# Altium integrated library Actel Axcelerator.IntLib: 162 symbols (part 29 of 43)
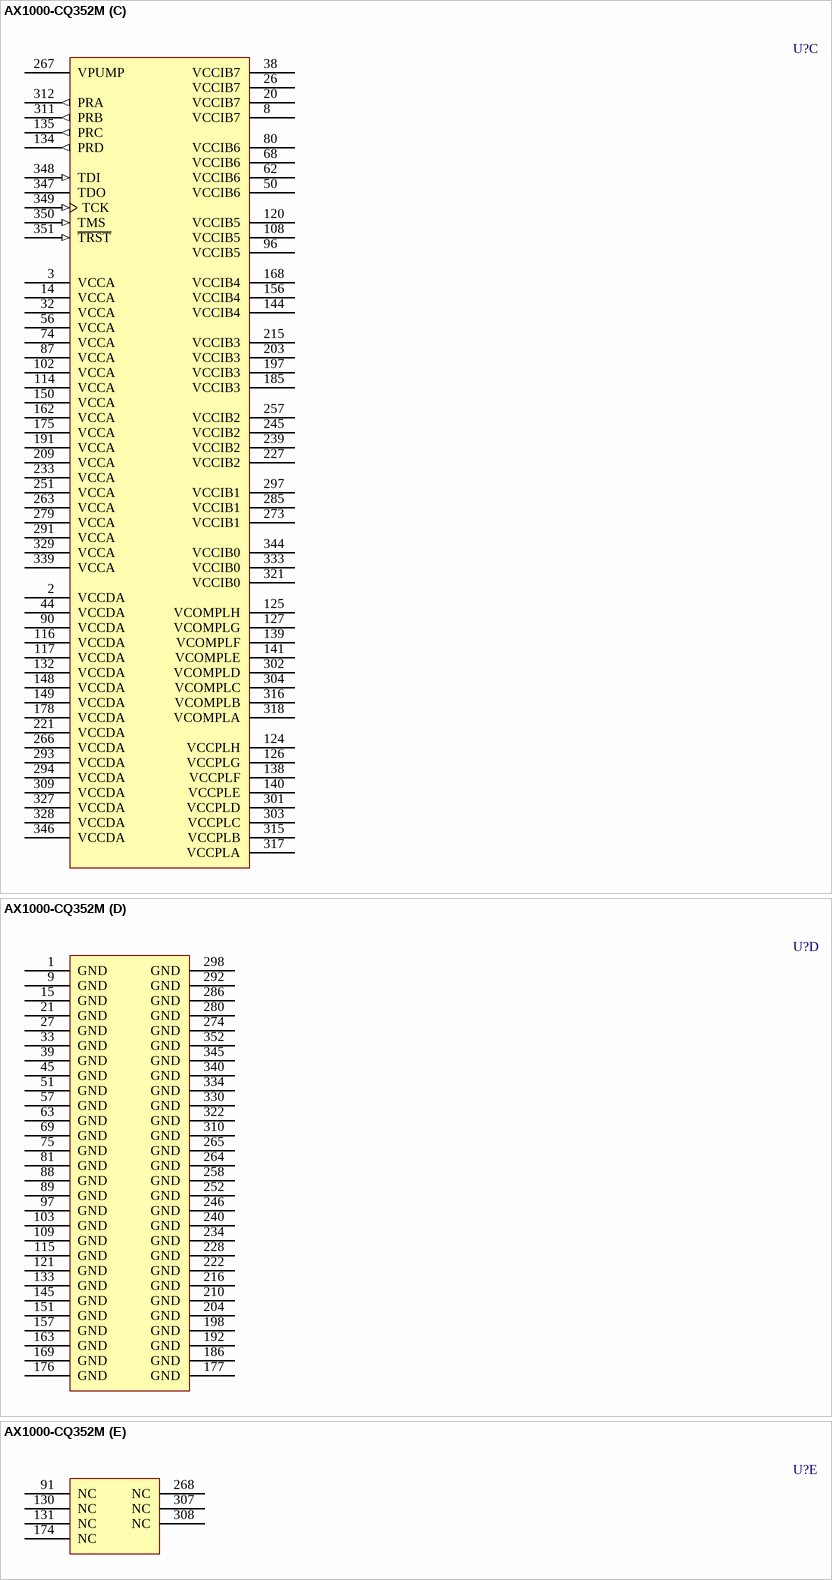
[diagram p427: symbol AX1000-CQ352M]

## AX1000-CQ352M
designator U?
Axcelerator AX1000 FPGA, 198 User I/Os, 352-Pin CQFP, Standard Speed Grade, Military Grade; Published: 11-Dec-2009; DatasheetVersion: v2.8, Oct-2009; PackageVersion: ver11.2, Nov-2009; PackageReference: CQ352; Publisher: Altium Limited; PackageDescription: 352-Pin Ceramic Quad Flat Pack (CQFP), Cavity Up without Heat Sink; Code_JEDEC: MO-134-AE; ComponentLink1Description: Axcelerator Datasheet; ComponentLink1URL: http://www.actel.com/documents/AX_DS.pdf; ComponentLink2Description: Package Mechanical Drawings; ComponentLink2URL: http://www.actel.com/documents/PckgMechDrwngs.pdf; ComponentLink3Description: Axcelerator Documents; ComponentLink3URL: http://www.actel.com/products/axcelerator/docs.aspx; ComponentLink4Description: Actel.com Home; ComponentLink4URL: http://www.actel.com/
footprint CQ352_N (CQFP, 352-Leads, Body 48x48mm; Pitch 0.5mm, Gullwing Leadform, IPC Medium Density)
footprint CQ352_L (CQFP, 352-Leads, Body 48x48mm; Pitch 0.5mm, Gullwing Leadform, IPC High Density)
footprint CQ352_M (CQFP, 352-Leads, Body 48x48mm; Pitch 0.5mm, Gullwing Leadform, IPC Low Density)
part A pins: 179 IO128NB3F11 (io), 180 IO128PB3F11 (io), 181 IO127NB3F11 (io), 182 IO127PB3F11 (io), 183 IO124NB3F11 (io), 184 IO124PB3F11 (io), 187 IO125NB3F11 (io), 188 IO125PB3F11 (io), 189 IO117NB3F10 (io), 190 IO117PB3F10 (io), 193 IO116NB3F10 (io), 194 IO116PB3F10 (io), 195 IO115NB3F10 (io), 196 IO115PB3F10 (io), 199 IO112NB3F10 (io), 200 IO112PB3F10 (io), 201 IO113NB3F10 (io), 202 IO113PB3F10 (io), 205 IO111NB3F10 (io), 206 IO111PB3F10 (io), 207 IO109NB3F10 (io), 208 IO109PB3F10 (io), 211 IO108NB3F10 (io), 212 IO108PB3F10 (io), 213 IO99NB3F9 (io), 214 IO99PB3F9 (io), 217 IO96NB3F9 (io), 218 IO96PB3F9 (io), 219 IO97NB3F9 (io), 220 IO97PB3F9 (io), 223 IO95NB2F8 (io), 224 IO95PB2F8 (io), 225 IO94NB2F8 (io), 226 IO94PB2F8 (io), 229 IO83NB2F7 (io), 230 IO83PB2F7 (io), 231 IO82NB2F7 (io), 232 IO82PB2F7 (io), 235 IO79NB2F7 (io), 236 IO79PB2F7 (io), 237 IO78NB2F7 (io), 238 IO78PB2F7 (io), 241 IO77NB2F7 (io), 242 IO77PB2F7 (io), 243 IO76NB2F7 (io), 244 IO76PB2F7 (io), 247 IO75NB2F7 (io), 248 IO75PB2F7 (io), 249 IO74NB2F7 (io), 250 IO74PB2F7 (io), 253 IO69NB2F6 (io), 254 IO69PB2F6 (io), 255 IO68NB2F6 (io), 256 IO68PB2F6 (io), 259 IO64NB2F6 (io), 260 IO64PB2F6 (io), 261 IO67NB2F6 (io), 262 IO67PB2F6 (io), 269 IO63NB1F5 (io), 270 IO63PB1F5 (io), 271 IO61NB1F5 (io), 272 IO61PB1F5 (io), 275 IO60NB1F5 (io), 276 IO60PB1F5 (io), 277 IO59NB1F5 (io), 278 IO59PB1F5 (io), 281 IO56NB1F5 (io), 282 IO56PB1F5 (io), 283 IO57NB1F5 (io), 284 IO57PB1F5 (io), 287 IO54NB1F5 (io), 288 IO54PB1F5 (io), 289 IO55NB1F5 (io), 290 IO55PB1F5 (io), 295 IO38NB1F3 (io), 296 IO38PB1F3 (io), 299 IO33NB1F3/HCLKDN (io), 300 IO33PB1F3/HCLKDP (io), 305 IO32NB1F3/HCLKCN (io), 306 IO32PB1F3/HCLKCP (io), 313 IO31NB0F2/HCLKBN (io), 314 IO31PB0F2/HCLKBP (io), 319 IO30NB0F2/HCLKAN (io), 320 IO30PB0F2/HCLKAP (io), 323 IO25NB0F2 (io), 324 IO25PB0F2 (io), 325 IO24NB0F2 (io), 326 IO24PB0F2 (io), 331 IO08NB0F0 (io), 332 IO08PB0F0 (io), 335 IO09NB0F0 (io), 336 IO09PB0F0 (io), 337 IO04NB0F0 (io), 338 IO04PB0F0 (io), 341 IO02NB0F0 (io), 342 IO02PB0F0 (io), 343 IO03PB0F0 (io)
part B pins: 4 IO256NB7F23 (io), 5 IO256PB7F23 (io), 6 IO257NB7F23 (io), 7 IO257PB7F23 (io), 10 IO250NB7F23 (io), 11 IO250PB7F23 (io), 12 IO249NB7F23 (io), 13 IO249PB7F23 (io), 16 IO246NB7F22 (io), 17 IO246PB7F22 (io), 18 IO245NB7F22 (io), 19 IO245PB7F22 (io), 22 IO244NB7F22 (io), 23 IO244PB7F22 (io), 24 IO242NB7F22 (io), 25 IO242PB7F22 (io), 28 IO241NB7F22 (io), 29 IO241PB7F22 (io), 30 IO240NB7F22 (io), 31 IO240PB7F22 (io), 34 IO237NB7F22 (io), 35 IO237PB7F22 (io), 36 IO238NB7F22 (io), 37 IO238PB7F22 (io), 40 IO225NB7F21 (io), 41 IO225PB7F21 (io), 42 IO226NB7F21 (io), 43 IO226PB7F21 (io), 46 IO224NB6F20 (io), 47 IO224PB6F20 (io), 48 IO223NB6F20 (io), 49 IO223PB6F20 (io), 52 IO212NB6F19 (io), 53 IO212PB6F19 (io), 54 IO211NB6F19 (io), 55 IO211PB6F19 (io), 58 IO208NB6F19 (io), 59 IO208PB6F19 (io), 60 IO207NB6F19 (io), 61 IO207PB6F19 (io), 64 IO206NB6F19 (io), 65 IO206PB6F19 (io), 66 IO205NB6F19 (io), 67 IO205PB6F19 (io), 70 IO204NB6F19 (io), 71 IO204PB6F19 (io), 72 IO203NB6F19 (io), 73 IO203PB6F19 (io), 76 IO198NB6F18 (io), 77 IO198PB6F18 (io), 78 IO196NB6F18 (io), 79 IO196PB6F18 (io), 82 IO197NB6F18 (io), 83 IO197PB6F18 (io), 84 IO194NB6F18 (io), 85 IO194PB6F18 (io), 86 IO193PB6F18 (io), 92 IO192NB5F17 (io), 93 IO192PB5F17 (io), 94 IO190NB5F17 (io), 95 IO190PB5F17 (io), 98 IO187NB5F17 (io), 99 IO187PB5F17 (io), 100 IO188NB5F17 (io), 101 IO188PB5F17 (io), 104 IO185NB5F17 (io), 105 IO185PB5F17 (io), 106 IO186NB5F17 (io), 107 IO186PB5F17 (io), 110 IO183NB5F17 (io), 111 IO183PB5F17 (io), 112 IO184NB5F17 (io), 113 IO184PB5F17 (io), 118 IO167NB5F15 (io), 119 IO167PB5F15 (io), 122 IO162NB5F15/CLKHN (io), 123 IO162PB5F15/CLKHP (io), 128 IO161NB5F15/CLKGN (io), 129 IO161PB5F15/CLKGP (io), 136 IO160NB4F14/CLKFN (io), 137 IO160PB4F14/CLKFP (io), 142 IO159NB4F14/CLKEN (io), 143 IO159PB4F14/CLKEP (io), 146 IO153NB4F14 (io), 147 IO153PB4F14 (io), 152 IO138NB4F12 (io), 153 IO138PB4F12 (io), 154 IO137NB4F12 (io), 155 IO137PB4F12 (io), 158 IO136NB4F12 (io), 159 IO136PB4F12 (io), 160 IO134NB4F12 (io), 161 IO134PB4F12 (io), 164 IO133NB4F12 (io), 165 IO133PB4F12 (io), 166 IO132NB4F12 (io), 167 IO132PB4F12 (io), 170 IO131NB4F12 (io), 171 IO131PB4F12 (io), 172 IO130NB4F12 (io), 173 IO130PB4F12 (io)
part C pins: 2 VCCDA (power), 3 VCCA (power), 8 VCCIB7 (power), 14 VCCA (power), 20 VCCIB7 (power), 26 VCCIB7 (power), 32 VCCA (power), 38 VCCIB7 (power), 44 VCCDA (power), 50 VCCIB6 (power), 56 VCCA (power), 62 VCCIB6 (power), 68 VCCIB6 (power), 74 VCCA (power), 80 VCCIB6 (power), 87 VCCA (power), 90 VCCDA (power), 96 VCCIB5 (power), 102 VCCA (power), 108 VCCIB5 (power), 114 VCCA (power), 116 VCCDA (power), 117 VCCDA (power), 120 VCCIB5 (power), 124 VCCPLH (power), 125 VCOMPLH (power), 126 VCCPLG (power), 127 VCOMPLG (power), 132 VCCDA (power), 134 PRD (out), 135 PRC (out), 138 VCCPLF (power), 139 VCOMPLF (power), 140 VCCPLE (power), 141 VCOMPLE (power), 144 VCCIB4 (power), 148 VCCDA (power), 149 VCCDA (power), 150 VCCA (power), 156 VCCIB4 (power), 162 VCCA (power), 168 VCCIB4 (power), 175 VCCA (power), 178 VCCDA (power), 185 VCCIB3 (power), 191 VCCA (power), 197 VCCIB3 (power), 203 VCCIB3 (power), 209 VCCA (power), 215 VCCIB3 (power), 221 VCCDA (power), 227 VCCIB2 (power), 233 VCCA (power), 239 VCCIB2 (power), 245 VCCIB2 (power), 251 VCCA (power), 257 VCCIB2 (power), 263 VCCA (power), 266 VCCDA (power), 267 VPUMP (power), 273 VCCIB1 (power), 279 VCCA (power), 285 VCCIB1 (power), 291 VCCA (power), 293 VCCDA (power), 294 VCCDA (power), 297 VCCIB1 (power), 301 VCCPLD (power), 302 VCOMPLD (power), 303 VCCPLC (power), 304 VCOMPLC (power), 309 VCCDA (power), 311 PRB (out), 312 PRA (out), 315 VCCPLB (power), 316 VCOMPLB (power), 317 VCCPLA (power), 318 VCOMPLA (power), 321 VCCIB0 (power), 327 VCCDA (power), 328 VCCDA (power), 329 VCCA (power), 333 VCCIB0 (power), 339 VCCA (power), 344 VCCIB0 (power), 346 VCCDA (power), 347 TDO (hiz), 348 TDI (in), 349 TCK (in), 350 TMS (in), 351 ~{TRST} (in)
part D pins: 1 GND (power), 9 GND (power), 15 GND (power), 21 GND (power), 27 GND (power), 33 GND (power), 39 GND (power), 45 GND (power), 51 GND (power), 57 GND (power), 63 GND (power), 69 GND (power), 75 GND (power), 81 GND (power), 88 GND (power), 89 GND (power), 97 GND (power), 103 GND (power), 109 GND (power), 115 GND (power), 121 GND (power), 133 GND (power), 145 GND (power), 151 GND (power), 157 GND (power), 163 GND (power), 169 GND (power), 176 GND (power), 177 GND (power), 186 GND (power), 192 GND (power), 198 GND (power), 204 GND (power), 210 GND (power), 216 GND (power), 222 GND (power), 228 GND (power), 234 GND (power), 240 GND (power), 246 GND (power), 252 GND (power), 258 GND (power), 264 GND (power), 265 GND (power), 274 GND (power), 280 GND (power), 286 GND (power), 292 GND (power), 298 GND (power), 310 GND (power), 322 GND (power), 330 GND (power), 334 GND (power), 340 GND (power), 345 GND (power), 352 GND (power)
part E pins: 91 NC, 130 NC, 131 NC, 174 NC, 268 NC, 307 NC, 308 NC
part A text: Bank 0; Bank 3; Bank 1; Bank 2
part B text: Bank 4; Bank 7; Bank 5; Bank 6

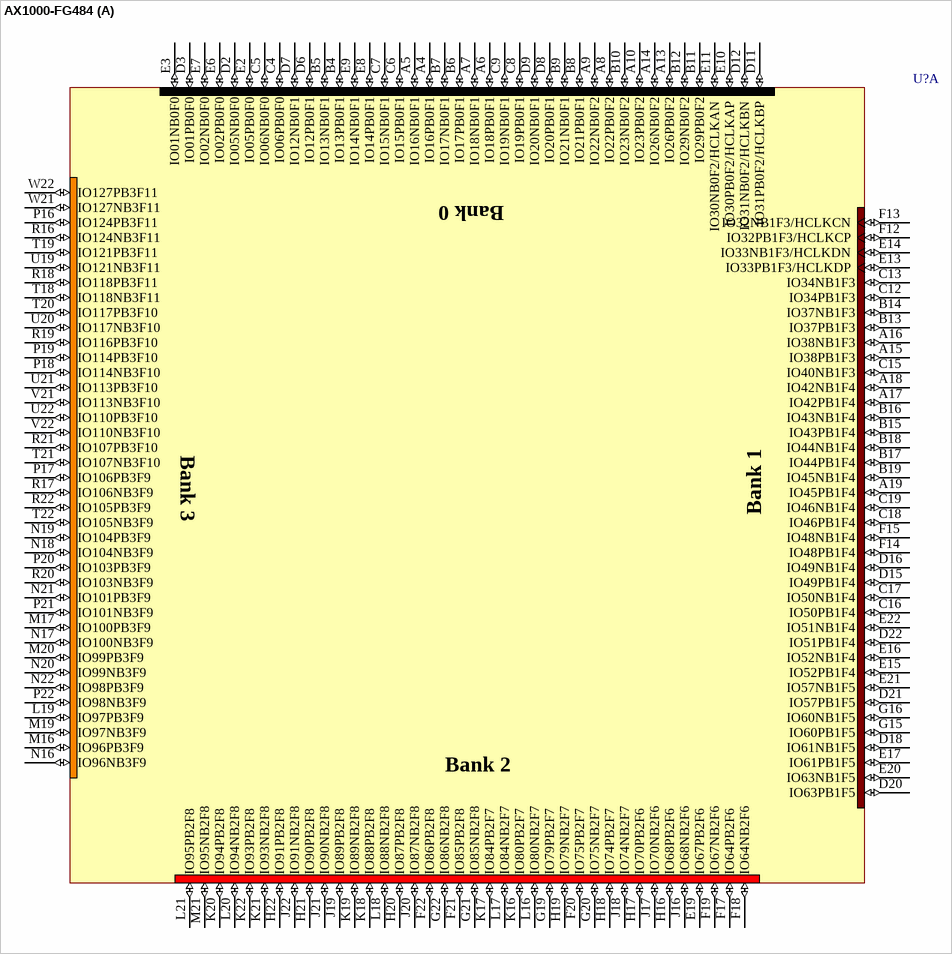
[diagram p328: symbol AX1000-FG484]

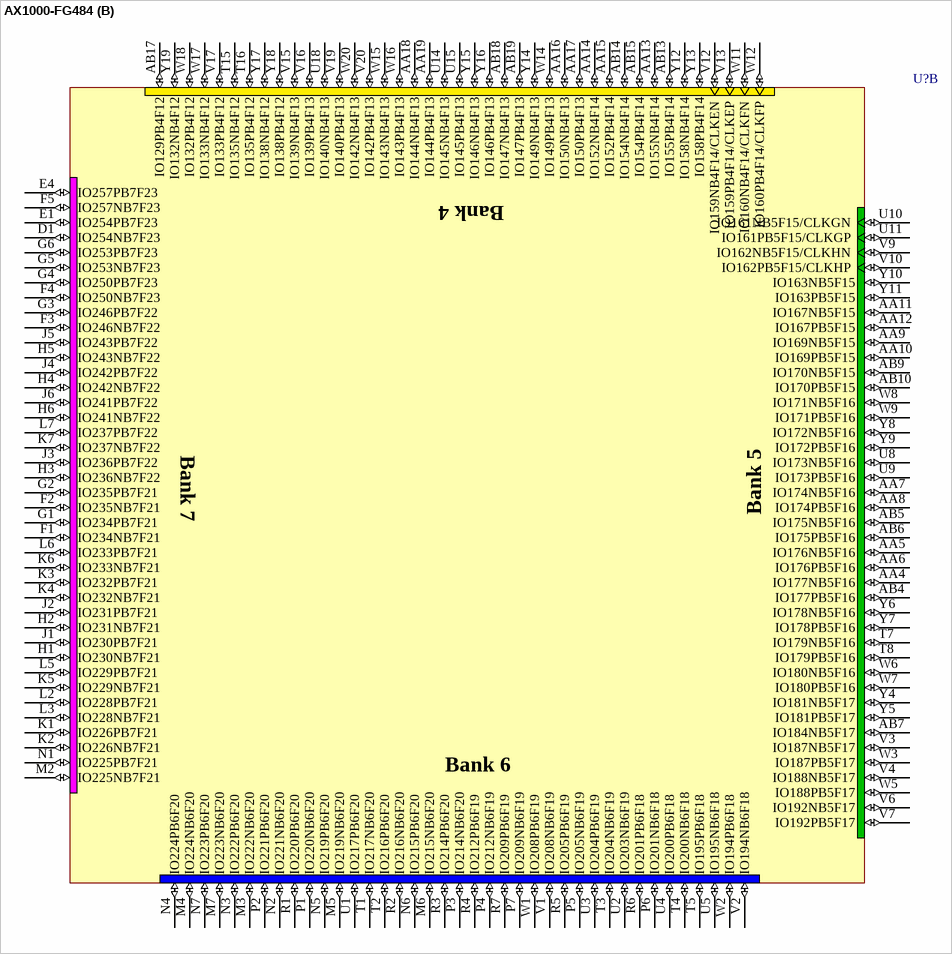
[diagram p329: symbol AX1000-FG484]

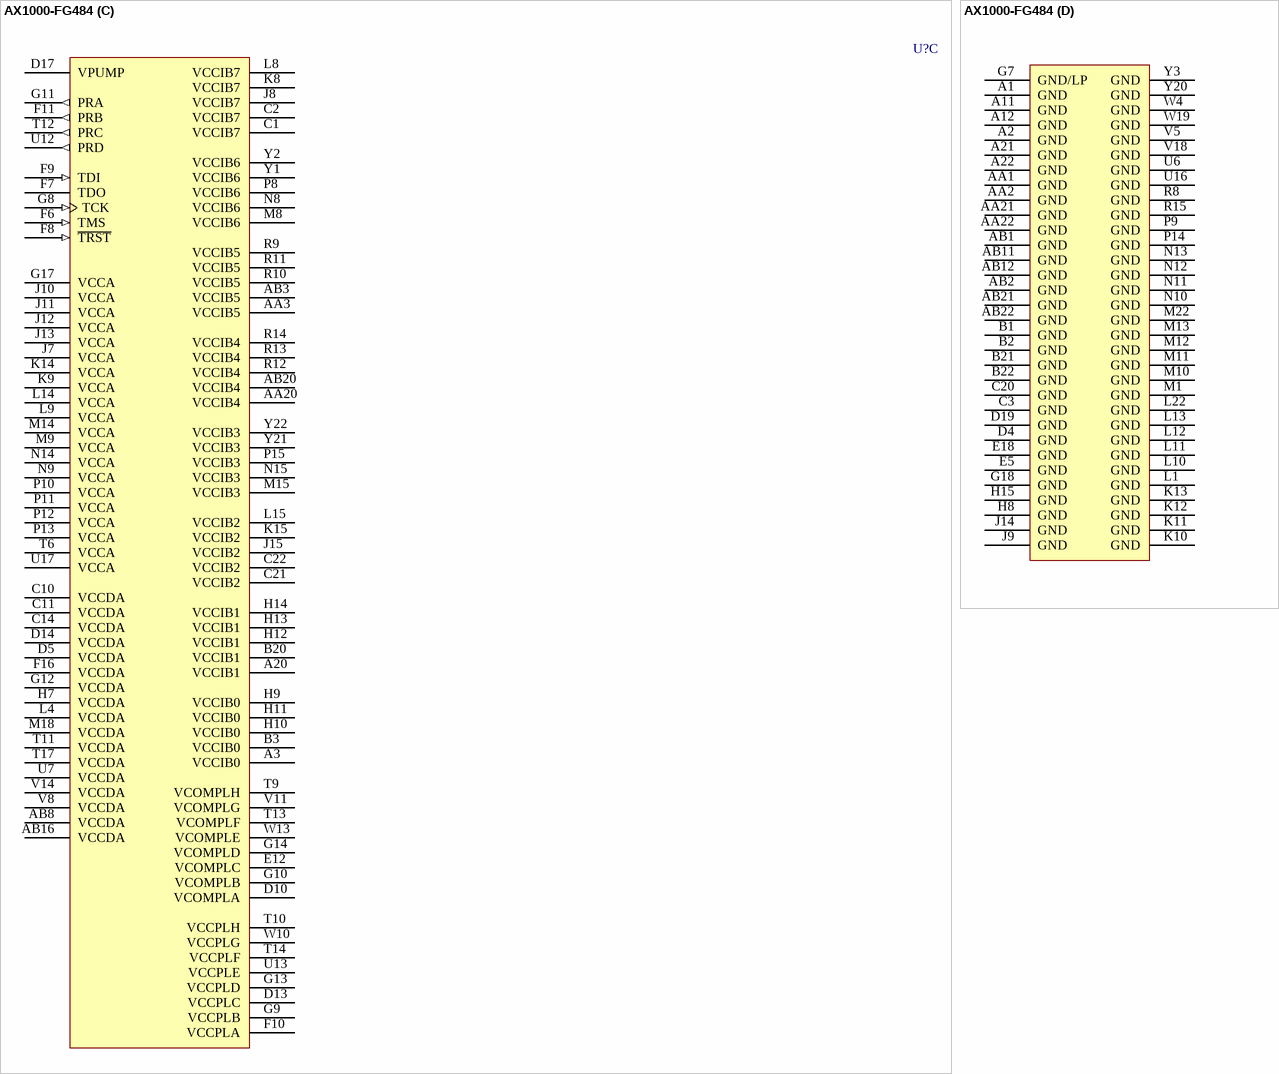
[diagram p330: symbol AX1000-FG484]

## AX1000-FG484
designator U?
Axcelerator AX1000 FPGA, 317 User I/Os, 484-Pin FBGA, Standard Speed Grade, Commercial Grade; Published: 17-Sep-2003; LatestRevisionDate: 11-Dec-2009; LatestRevisionNote: Updated to datasheet version 2.8 Oct-2009.; DatasheetVersion: v2.8, Oct-2009; PackageVersion: ver11.2, Nov-2009; PackageReference: FG484; Publisher: Altium Limited; PackageDescription: 484-Ball Fine Pitch Plastic Ball Grid Array (FG484) - Fully Populated; Code_JEDEC: MS-034-AAJ-1; Code_IPC: BGA100P22X22-484; ComponentLink1Description: Axcelerator Datasheet; ComponentLink1URL: http://www.actel.com/documents/AX_DS.pdf; ComponentLink2Description: Package Mechanical Drawings; ComponentLink2URL: http://www.actel.com/documents/PckgMechDrwngs.pdf; ComponentLink3Description: Axcelerator Documents; ComponentLink3URL: http://www.actel.com/products/axcelerator/docs.aspx; ComponentLink4Description: Actel.com Home; ComponentLink4URL: http://www.actel.com/
footprint FG484 (BGA, 484-Leads, Body 23x23mm, Pitch 1mm)
part A pins: A4 IO16PB0F1 (io), A5 IO16NB0F1 (io), A6 IO18PB0F1 (io), A7 IO18NB0F1 (io), A8 IO22PB0F2 (io), A9 IO22NB0F2 (io), A10 IO23PB0F2 (io), A13 IO26PB0F2 (io), A14 IO26NB0F2 (io), A15 IO38PB1F3 (io), A16 IO38NB1F3 (io), A17 IO42PB1F4 (io), A18 IO42NB1F4 (io), A19 IO45PB1F4 (io), B4 IO13PB0F1 (io), B5 IO13NB0F1 (io), B6 IO17PB0F1 (io), B7 IO17NB0F1 (io), B8 IO21PB0F1 (io), B9 IO21NB0F1 (io), B10 IO23NB0F2 (io), B11 IO29PB0F2 (io), B12 IO29NB0F2 (io), B13 IO37PB1F3 (io), B14 IO37NB1F3 (io), B15 IO43PB1F4 (io), B16 IO43NB1F4 (io), B17 IO44PB1F4 (io), B18 IO44NB1F4 (io), B19 IO45NB1F4 (io), C4 IO06PB0F0 (io), C5 IO06NB0F0 (io), C6 IO15PB0F1 (io), C7 IO15NB0F1 (io), C8 IO19PB0F1 (io), C9 IO19NB0F1 (io), C12 IO34PB1F3 (io), C13 IO34NB1F3 (io), C15 IO40NB1F3 (io), C16 IO50PB1F4 (io), C17 IO50NB1F4 (io), C18 IO46PB1F4 (io), C19 IO46NB1F4 (io), D2 IO05NB0F0 (io), D3 IO01PB0F0 (io), D6 IO12PB0F1 (io), D7 IO12NB0F1 (io), D8 IO20PB0F1 (io), D9 IO20NB0F1 (io), D11 IO31PB0F2/HCLKBP (io), D12 IO31NB0F2/HCLKBN (io), D15 IO49PB1F4 (io), D16 IO49NB1F4 (io), D18 IO61NB1F5 (io), D20 IO63PB1F5 (io), D21 IO57PB1F5 (io), D22 IO51PB1F4 (io), E2 IO05PB0F0 (io), E3 IO01NB0F0 (io), E6 IO02PB0F0 (io), E7 IO02NB0F0 (io), E8 IO14PB0F1 (io), E9 IO14NB0F1 (io), E10 IO30PB0F2/HCLKAP (io), E11 IO30NB0F2/HCLKAN (io), E13 IO33PB1F3/HCLKDP (io), E14 IO33NB1F3/HCLKDN (io), E15 IO52PB1F4 (io), E16 IO52NB1F4 (io), E17 IO61PB1F5 (io), E19 IO67PB2F6 (io), E20 IO63NB1F5 (io), E21 IO57NB1F5 (io), E22 IO51NB1F4 (io), F12 IO32PB1F3/HCLKCP (io), F13 IO32NB1F3/HCLKCN (io), F14 IO48PB1F4 (io), F15 IO48NB1F4 (io), F17 IO64PB2F6 (io), F18 IO64NB2F6 (io), F19 IO67NB2F6 (io), F20 IO75PB2F7 (io), F21 IO85PB2F8 (io), F22 IO86PB2F8 (io), G15 IO60PB1F5 (io), G16 IO60NB1F5 (io), G19 IO79PB2F7 (io), G20 IO75NB2F7 (io), G21 IO85NB2F8 (io), G22 IO86NB2F8 (io), H16 IO68PB2F6 (io), H17 IO70PB2F6 (io), H18 IO74PB2F7 (io), H19 IO79NB2F7 (io), H20 IO87PB2F8 (io), H21 IO90PB2F8 (io), H22 IO91PB2F8 (io), J16 IO68NB2F6 (io), J17 IO70NB2F6 (io), J18 IO74NB2F7 (io), J19 IO89PB2F8 (io), J20 IO87NB2F8 (io), J21 IO90NB2F8 (io), J22 IO91NB2F8 (io), K16 IO80PB2F7 (io), K17 IO84PB2F7 (io), K18 IO88PB2F8 (io), K19 IO89NB2F8 (io), K20 IO94PB2F8 (io), K21 IO93NB2F8 (io), K22 IO93PB2F8 (io), L16 IO80NB2F7 (io), L17 IO84NB2F7 (io), L18 IO88NB2F8 (io), L19 IO97PB3F9 (io), L20 IO94NB2F8 (io), L21 IO95PB2F8 (io), M16 IO96PB3F9 (io), M17 IO100PB3F9 (io), M19 IO97NB3F9 (io), M20 IO99PB3F9 (io), M21 IO95NB2F8 (io), N16 IO96NB3F9 (io), N17 IO100NB3F9 (io), N18 IO104NB3F9 (io), N19 IO104PB3F9 (io), N20 IO99NB3F9 (io), N21 IO101PB3F9 (io), N22 IO98PB3F9 (io), P16 IO124PB3F11 (io), P17 IO106PB3F9 (io), P18 IO114NB3F10 (io), P19 IO114PB3F10 (io), P20 IO103PB3F9 (io), P21 IO101NB3F9 (io), P22 IO98NB3F9 (io), R16 IO124NB3F11 (io), R17 IO106NB3F9 (io), R18 IO118PB3F11 (io), R19 IO116PB3F10 (io), R20 IO103NB3F9 (io), R21 IO107PB3F10 (io), R22 IO105PB3F9 (io), T18 IO118NB3F11 (io), T19 IO121PB3F11 (io), T20 IO117PB3F10 (io), T21 IO107NB3F10 (io), T22 IO105NB3F9 (io), U19 IO121NB3F11 (io), U20 IO117NB3F10 (io), U21 IO113PB3F10 (io), U22 IO110PB3F10 (io), V21 IO113NB3F10 (io), V22 IO110NB3F10 (io), W21 IO127NB3F11 (io), W22 IO127PB3F11 (io)
part B pins: AA4 IO177NB5F16 (io), AA5 IO176NB5F16 (io), AA6 IO176PB5F16 (io), AA7 IO174NB5F16 (io), AA8 IO174PB5F16 (io), AA9 IO169NB5F15 (io), AA10 IO169PB5F15 (io), AA11 IO167NB5F15 (io), AA12 IO167PB5F15 (io), AA13 IO155NB4F14 (io), AA14 IO152NB4F14 (io), AA15 IO152PB4F14 (io), AA16 IO150NB4F13 (io), AA17 IO150PB4F13 (io), AA18 IO144NB4F13 (io), AA19 IO144PB4F13 (io), AB4 IO177PB5F16 (io), AB5 IO175NB5F16 (io), AB6 IO175PB5F16 (io), AB7 IO184NB5F17 (io), AB9 IO170NB5F15 (io), AB10 IO170PB5F15 (io), AB13 IO155PB4F14 (io), AB14 IO154NB4F14 (io), AB15 IO154PB4F14 (io), AB17 IO129PB4F12 (io), AB18 IO147NB4F13 (io), AB19 IO147PB4F13 (io), D1 IO254NB7F23 (io), E1 IO254PB7F23 (io), E4 IO257PB7F23 (io), F1 IO234NB7F21 (io), F2 IO235NB7F21 (io), F3 IO246NB7F22 (io), F4 IO250NB7F23 (io), F5 IO257NB7F23 (io), G1 IO234PB7F21 (io), G2 IO235PB7F21 (io), G3 IO246PB7F22 (io), G4 IO250PB7F23 (io), G5 IO253NB7F23 (io), G6 IO253PB7F23 (io), H1 IO230NB7F21 (io), H2 IO231NB7F21 (io), H3 IO236NB7F22 (io), H4 IO242NB7F22 (io), H5 IO243NB7F22 (io), H6 IO241NB7F22 (io), J1 IO230PB7F21 (io), J2 IO231PB7F21 (io), J3 IO236PB7F22 (io), J4 IO242PB7F22 (io), J5 IO243PB7F22 (io), J6 IO241PB7F22 (io), K1 IO226PB7F21 (io), K2 IO226NB7F21 (io), K3 IO232PB7F21 (io), K4 IO232NB7F21 (io), K5 IO229NB7F21 (io), K6 IO233NB7F21 (io), K7 IO237NB7F22 (io), L2 IO228PB7F21 (io), L3 IO228NB7F21 (io), L5 IO229PB7F21 (io), L6 IO233PB7F21 (io), L7 IO237PB7F22 (io), M2 IO225NB7F21 (io), M3 IO222NB6F20 (io), M4 IO224NB6F20 (io), M5 IO219NB6F20 (io), M6 IO215NB6F20 (io), M7 IO223NB6F20 (io), N1 IO225PB7F21 (io), N2 IO221NB6F20 (io), N3 IO222PB6F20 (io), N4 IO224PB6F20 (io), N5 IO219PB6F20 (io), N6 IO215PB6F20 (io), N7 IO223PB6F20 (io), P1 IO220NB6F20 (io), P2 IO221PB6F20 (io), P3 IO214NB6F20 (io), P4 IO212NB6F19 (io), P5 IO205NB6F19 (io), P6 IO201NB6F18 (io), P7 IO209NB6F19 (io), R1 IO220PB6F20 (io), R2 IO216NB6F20 (io), R3 IO214PB6F20 (io), R4 IO212PB6F19 (io), R5 IO205PB6F19 (io), R6 IO201PB6F18 (io), R7 IO209PB6F19 (io), T1 IO217NB6F20 (io), T2 IO216PB6F20 (io), T3 IO204NB6F19 (io), T4 IO200NB6F18 (io), T5 IO195PB6F18 (io), T7 IO179NB5F16 (io), T8 IO179PB5F16 (io), T15 IO135NB4F12 (io), T16 IO135PB4F12 (io), U1 IO217PB6F20 (io), U2 IO203NB6F19 (io), U3 IO204PB6F19 (io), U4 IO200PB6F18 (io), U5 IO195NB6F18 (io), U8 IO173NB5F16 (io), U9 IO173PB5F16 (io), U10 IO161NB5F15/CLKGN (io), U11 IO161PB5F15/CLKGP (io), U14 IO145NB4F13 (io), U15 IO145PB4F13 (io), U18 IO140NB4F13 (io), V1 IO208NB6F19 (io), V2 IO194NB6F18 (io), V3 IO187NB5F17 (io), V4 IO188NB5F17 (io), V6 IO192NB5F17 (io), V7 IO192PB5F17 (io), V9 IO162NB5F15/CLKHN (io), V10 IO162PB5F15/CLKHP (io), V12 IO159NB4F14/CLKEN (io), V13 IO159PB4F14/CLKEP (io), V15 IO139NB4F13 (io), V16 IO139PB4F13 (io), V17 IO133PB4F12 (io), V19 IO140PB4F13 (io), V20 IO142PB4F13 (io), W1 IO208PB6F19 (io), W2 IO194PB6F18 (io), W3 IO187PB5F17 (io), W5 IO188PB5F17 (io), W6 IO180NB5F16 (io), W7 IO180PB5F16 (io), W8 IO171NB5F16 (io), W9 IO171PB5F16 (io), W11 IO160NB4F14/CLKFN (io), W12 IO160PB4F14/CLKFP (io), W14 IO149PB4F13 (io), W15 IO143NB4F13 (io), W16 IO143PB4F13 (io), W17 IO133NB4F12 (io), W18 IO132PB4F12 (io), W20 IO142NB4F13 (io), Y4 IO181NB5F17 (io), Y5 IO181PB5F17 (io), Y6 IO178NB5F16 (io), Y7 IO178PB5F16 (io), Y8 IO172NB5F16 (io), Y9 IO172PB5F16 (io), Y10 IO163NB5F15 (io), Y11 IO163PB5F15 (io), Y12 IO158NB4F14 (io), Y13 IO158PB4F14 (io), Y14 IO149NB4F13 (io), Y15 IO146NB4F13 (io), Y16 IO146PB4F13 (io), Y17 IO138NB4F12 (io), Y18 IO138PB4F12 (io), Y19 IO132NB4F12 (io)
part C pins: A3 VCCIB0 (power), A20 VCCIB1 (power), AA3 VCCIB5 (power), AA20 VCCIB4 (power), AB3 VCCIB5 (power), AB8 VCCDA (power), AB16 VCCDA (power), AB20 VCCIB4 (power), B3 VCCIB0 (power), B20 VCCIB1 (power), C1 VCCIB7 (power), C2 VCCIB7 (power), C10 VCCDA (power), C11 VCCDA (power), C14 VCCDA (power), C21 VCCIB2 (power), C22 VCCIB2 (power), D5 VCCDA (power), D10 VCOMPLA (power), D13 VCCPLC (power), D14 VCCDA (power), D17 VPUMP (power), E12 VCOMPLC (power), F6 TMS (in), F7 TDO (hiz), F8 ~{TRST} (in), F9 TDI (in), F10 VCCPLA (power), F11 PRB (out), F16 VCCDA (power), G8 TCK (in), G9 VCCPLB (power), G10 VCOMPLB (power), G11 PRA (out), G12 VCCDA (power), G13 VCCPLD (power), G14 VCOMPLD (power), G17 VCCA (power), H7 VCCDA (power), H9 VCCIB0 (power), H10 VCCIB0 (power), H11 VCCIB0 (power), H12 VCCIB1 (power), H13 VCCIB1 (power), H14 VCCIB1 (power), J7 VCCA (power), J8 VCCIB7 (power), J10 VCCA (power), J11 VCCA (power), J12 VCCA (power), J13 VCCA (power), J15 VCCIB2 (power), K8 VCCIB7 (power), K9 VCCA (power), K14 VCCA (power), K15 VCCIB2 (power), L4 VCCDA (power), L8 VCCIB7 (power), L9 VCCA (power), L14 VCCA (power), L15 VCCIB2 (power), M8 VCCIB6 (power), M9 VCCA (power), M14 VCCA (power), M15 VCCIB3 (power), M18 VCCDA (power), N8 VCCIB6 (power), N9 VCCA (power), N14 VCCA (power), N15 VCCIB3 (power), P8 VCCIB6 (power), P10 VCCA (power), P11 VCCA (power), P12 VCCA (power), P13 VCCA (power), P15 VCCIB3 (power), R9 VCCIB5 (power), R10 VCCIB5 (power), R11 VCCIB5 (power), R12 VCCIB4 (power), R13 VCCIB4 (power), R14 VCCIB4 (power), T6 VCCA (power), T9 VCOMPLH (power), T10 VCCPLH (power), T11 VCCDA (power), T12 PRC (out), T13 VCOMPLF (power), T14 VCCPLF (power), T17 VCCDA (power), U7 VCCDA (power), U12 PRD (out), U13 VCCPLE (power), U17 VCCA (power), V8 VCCDA (power), V11 VCOMPLG (power), V14 VCCDA (power), W10 VCCPLG (power), W13 VCOMPLE (power), Y1 VCCIB6 (power), Y2 VCCIB6 (power), Y21 VCCIB3 (power), Y22 VCCIB3 (power)
part D pins: A1 GND (power), A2 GND (power), A11 GND (power), A12 GND (power), A21 GND (power), A22 GND (power), AA1 GND (power), AA2 GND (power), AA21 GND (power), AA22 GND (power), AB1 GND (power), AB2 GND (power), AB11 GND (power), AB12 GND (power), AB21 GND (power), AB22 GND (power), B1 GND (power), B2 GND (power), B21 GND (power), B22 GND (power), C3 GND (power), C20 GND (power), D4 GND (power), D19 GND (power), E5 GND (power), E18 GND (power), G7 GND/LP (power), G18 GND (power), H8 GND (power), H15 GND (power), J9 GND (power), J14 GND (power), K10 GND (power), K11 GND (power), K12 GND (power), K13 GND (power), L1 GND (power), L10 GND (power), L11 GND (power), L12 GND (power), L13 GND (power), L22 GND (power), M1 GND (power), M10 GND (power), M11 GND (power), M12 GND (power), M13 GND (power), M22 GND (power), N10 GND (power), N11 GND (power), N12 GND (power), N13 GND (power), P9 GND (power), P14 GND (power), R8 GND (power), R15 GND (power), U6 GND (power), U16 GND (power), V5 GND (power), V18 GND (power), W4 GND (power), W19 GND (power), Y3 GND (power), Y20 GND (power)
part A text: Bank 0; Bank 3; Bank 1; Bank 2
part B text: Bank 4; Bank 7; Bank 5; Bank 6

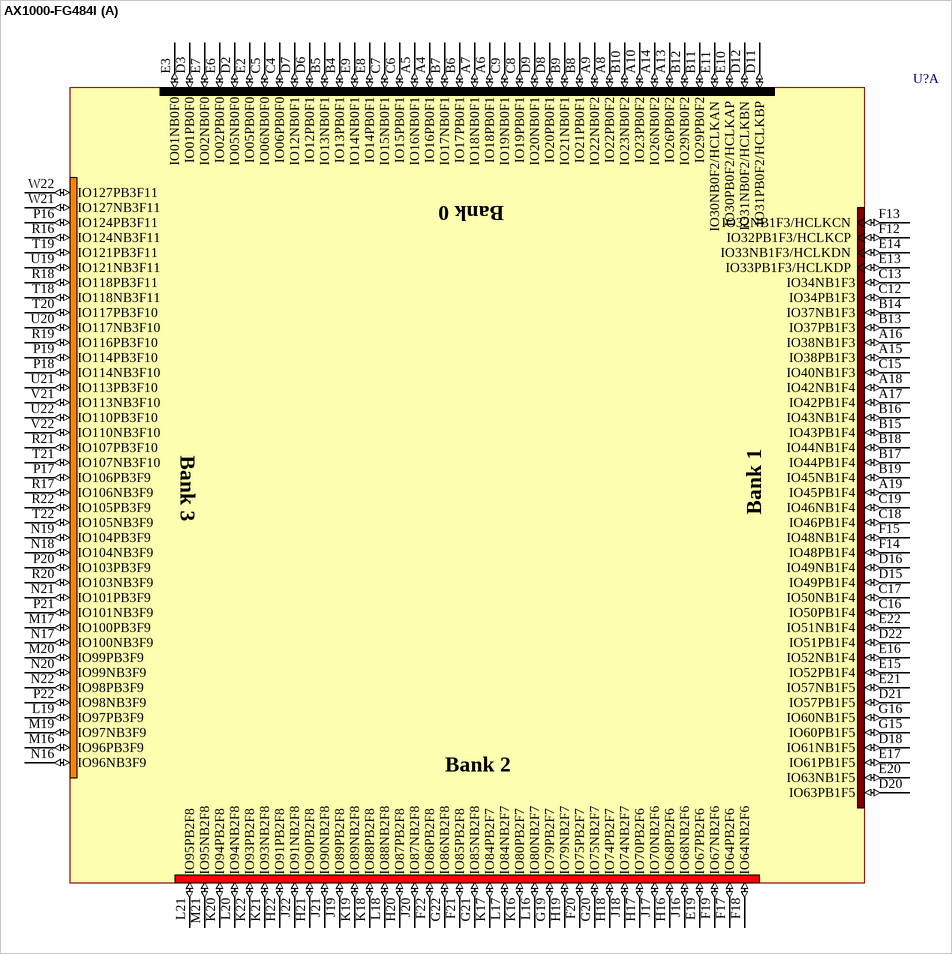
[diagram p331: symbol AX1000-FG484I]

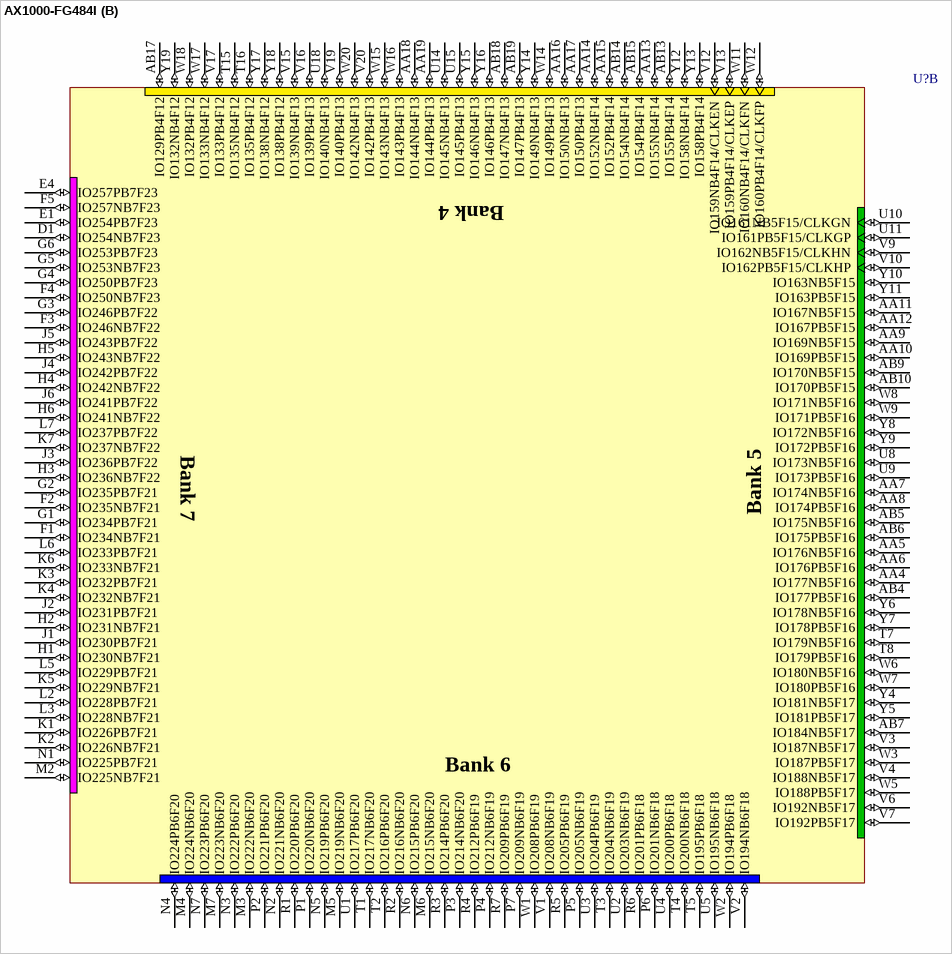
[diagram p332: symbol AX1000-FG484I]

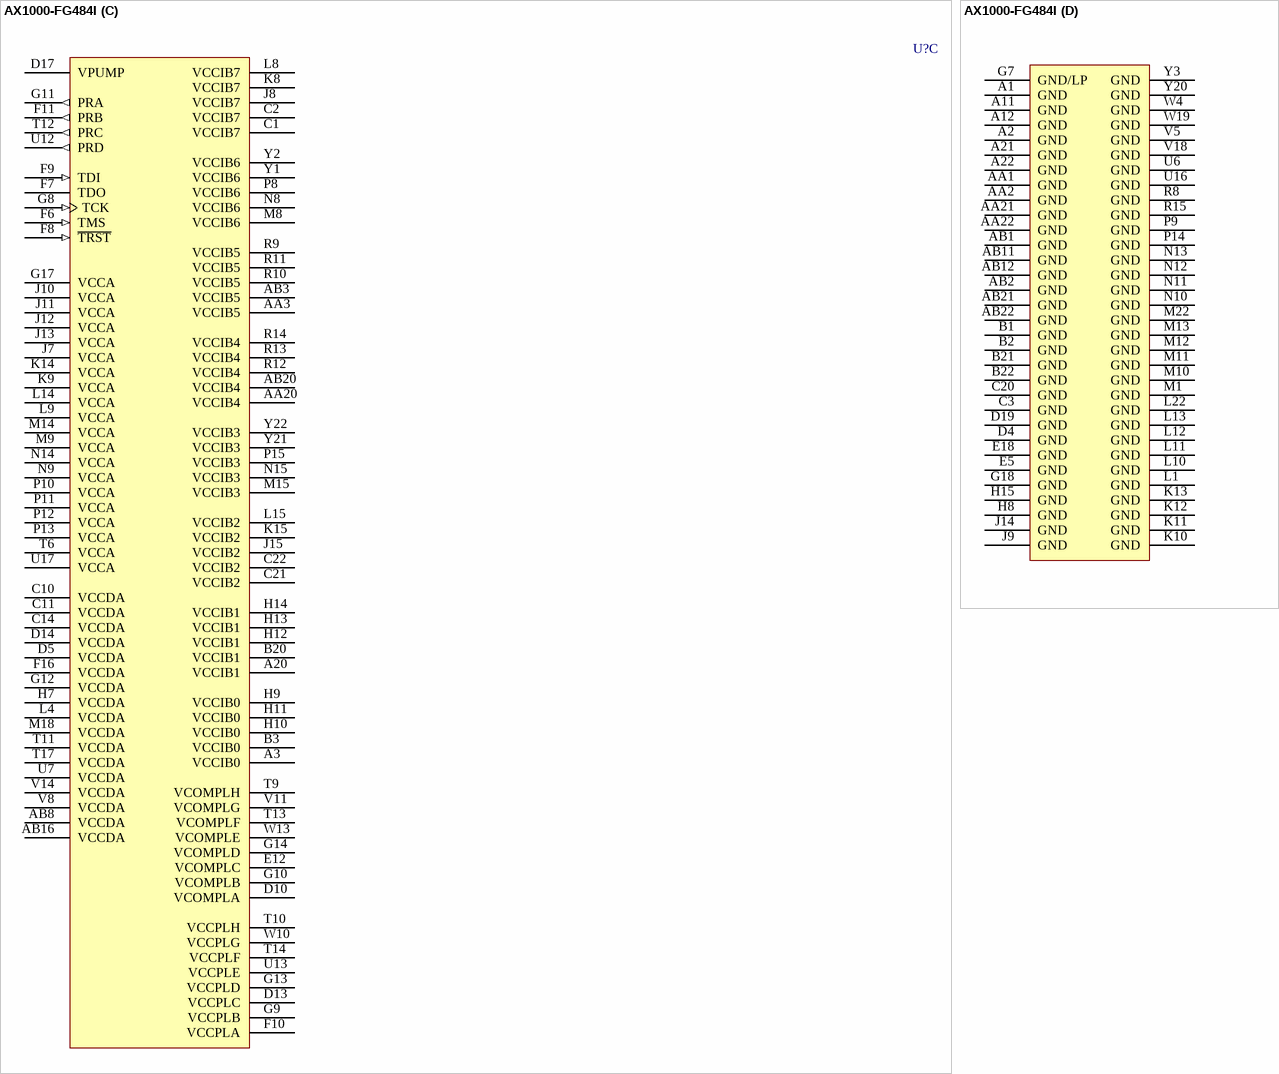
[diagram p333: symbol AX1000-FG484I]

## AX1000-FG484I
designator U?
Axcelerator AX1000 FPGA, 317 User I/Os, 484-Pin FBGA, Standard Speed Grade, Industrial Grade; Published: 17-Sep-2003; LatestRevisionDate: 11-Dec-2009; LatestRevisionNote: Updated to datasheet version 2.8 Oct-2009.; DatasheetVersion: v2.8, Oct-2009; PackageVersion: ver11.2, Nov-2009; PackageReference: FG484; Publisher: Altium Limited; PackageDescription: 484-Ball Fine Pitch Plastic Ball Grid Array (FG484) - Fully Populated; Code_JEDEC: MS-034-AAJ-1; Code_IPC: BGA100P22X22-484; ComponentLink1Description: Axcelerator Datasheet; ComponentLink1URL: http://www.actel.com/documents/AX_DS.pdf; ComponentLink2Description: Package Mechanical Drawings; ComponentLink2URL: http://www.actel.com/documents/PckgMechDrwngs.pdf; ComponentLink3Description: Axcelerator Documents; ComponentLink3URL: http://www.actel.com/products/axcelerator/docs.aspx; ComponentLink4Description: Actel.com Home; ComponentLink4URL: http://www.actel.com/
footprint FG484 (BGA, 484-Leads, Body 23x23mm, Pitch 1mm)
part A pins: A4 IO16PB0F1 (io), A5 IO16NB0F1 (io), A6 IO18PB0F1 (io), A7 IO18NB0F1 (io), A8 IO22PB0F2 (io), A9 IO22NB0F2 (io), A10 IO23PB0F2 (io), A13 IO26PB0F2 (io), A14 IO26NB0F2 (io), A15 IO38PB1F3 (io), A16 IO38NB1F3 (io), A17 IO42PB1F4 (io), A18 IO42NB1F4 (io), A19 IO45PB1F4 (io), B4 IO13PB0F1 (io), B5 IO13NB0F1 (io), B6 IO17PB0F1 (io), B7 IO17NB0F1 (io), B8 IO21PB0F1 (io), B9 IO21NB0F1 (io), B10 IO23NB0F2 (io), B11 IO29PB0F2 (io), B12 IO29NB0F2 (io), B13 IO37PB1F3 (io), B14 IO37NB1F3 (io), B15 IO43PB1F4 (io), B16 IO43NB1F4 (io), B17 IO44PB1F4 (io), B18 IO44NB1F4 (io), B19 IO45NB1F4 (io), C4 IO06PB0F0 (io), C5 IO06NB0F0 (io), C6 IO15PB0F1 (io), C7 IO15NB0F1 (io), C8 IO19PB0F1 (io), C9 IO19NB0F1 (io), C12 IO34PB1F3 (io), C13 IO34NB1F3 (io), C15 IO40NB1F3 (io), C16 IO50PB1F4 (io), C17 IO50NB1F4 (io), C18 IO46PB1F4 (io), C19 IO46NB1F4 (io), D2 IO05NB0F0 (io), D3 IO01PB0F0 (io), D6 IO12PB0F1 (io), D7 IO12NB0F1 (io), D8 IO20PB0F1 (io), D9 IO20NB0F1 (io), D11 IO31PB0F2/HCLKBP (io), D12 IO31NB0F2/HCLKBN (io), D15 IO49PB1F4 (io), D16 IO49NB1F4 (io), D18 IO61NB1F5 (io), D20 IO63PB1F5 (io), D21 IO57PB1F5 (io), D22 IO51PB1F4 (io), E2 IO05PB0F0 (io), E3 IO01NB0F0 (io), E6 IO02PB0F0 (io), E7 IO02NB0F0 (io), E8 IO14PB0F1 (io), E9 IO14NB0F1 (io), E10 IO30PB0F2/HCLKAP (io), E11 IO30NB0F2/HCLKAN (io), E13 IO33PB1F3/HCLKDP (io), E14 IO33NB1F3/HCLKDN (io), E15 IO52PB1F4 (io), E16 IO52NB1F4 (io), E17 IO61PB1F5 (io), E19 IO67PB2F6 (io), E20 IO63NB1F5 (io), E21 IO57NB1F5 (io), E22 IO51NB1F4 (io), F12 IO32PB1F3/HCLKCP (io), F13 IO32NB1F3/HCLKCN (io), F14 IO48PB1F4 (io), F15 IO48NB1F4 (io), F17 IO64PB2F6 (io), F18 IO64NB2F6 (io), F19 IO67NB2F6 (io), F20 IO75PB2F7 (io), F21 IO85PB2F8 (io), F22 IO86PB2F8 (io), G15 IO60PB1F5 (io), G16 IO60NB1F5 (io), G19 IO79PB2F7 (io), G20 IO75NB2F7 (io), G21 IO85NB2F8 (io), G22 IO86NB2F8 (io), H16 IO68PB2F6 (io), H17 IO70PB2F6 (io), H18 IO74PB2F7 (io), H19 IO79NB2F7 (io), H20 IO87PB2F8 (io), H21 IO90PB2F8 (io), H22 IO91PB2F8 (io), J16 IO68NB2F6 (io), J17 IO70NB2F6 (io), J18 IO74NB2F7 (io), J19 IO89PB2F8 (io), J20 IO87NB2F8 (io), J21 IO90NB2F8 (io), J22 IO91NB2F8 (io), K16 IO80PB2F7 (io), K17 IO84PB2F7 (io), K18 IO88PB2F8 (io), K19 IO89NB2F8 (io), K20 IO94PB2F8 (io), K21 IO93NB2F8 (io), K22 IO93PB2F8 (io), L16 IO80NB2F7 (io), L17 IO84NB2F7 (io), L18 IO88NB2F8 (io), L19 IO97PB3F9 (io), L20 IO94NB2F8 (io), L21 IO95PB2F8 (io), M16 IO96PB3F9 (io), M17 IO100PB3F9 (io), M19 IO97NB3F9 (io), M20 IO99PB3F9 (io), M21 IO95NB2F8 (io), N16 IO96NB3F9 (io), N17 IO100NB3F9 (io), N18 IO104NB3F9 (io), N19 IO104PB3F9 (io), N20 IO99NB3F9 (io), N21 IO101PB3F9 (io), N22 IO98PB3F9 (io), P16 IO124PB3F11 (io), P17 IO106PB3F9 (io), P18 IO114NB3F10 (io), P19 IO114PB3F10 (io), P20 IO103PB3F9 (io), P21 IO101NB3F9 (io), P22 IO98NB3F9 (io), R16 IO124NB3F11 (io), R17 IO106NB3F9 (io), R18 IO118PB3F11 (io), R19 IO116PB3F10 (io), R20 IO103NB3F9 (io), R21 IO107PB3F10 (io), R22 IO105PB3F9 (io), T18 IO118NB3F11 (io), T19 IO121PB3F11 (io), T20 IO117PB3F10 (io), T21 IO107NB3F10 (io), T22 IO105NB3F9 (io), U19 IO121NB3F11 (io), U20 IO117NB3F10 (io), U21 IO113PB3F10 (io), U22 IO110PB3F10 (io), V21 IO113NB3F10 (io), V22 IO110NB3F10 (io), W21 IO127NB3F11 (io), W22 IO127PB3F11 (io)
part B pins: AA4 IO177NB5F16 (io), AA5 IO176NB5F16 (io), AA6 IO176PB5F16 (io), AA7 IO174NB5F16 (io), AA8 IO174PB5F16 (io), AA9 IO169NB5F15 (io), AA10 IO169PB5F15 (io), AA11 IO167NB5F15 (io), AA12 IO167PB5F15 (io), AA13 IO155NB4F14 (io), AA14 IO152NB4F14 (io), AA15 IO152PB4F14 (io), AA16 IO150NB4F13 (io), AA17 IO150PB4F13 (io), AA18 IO144NB4F13 (io), AA19 IO144PB4F13 (io), AB4 IO177PB5F16 (io), AB5 IO175NB5F16 (io), AB6 IO175PB5F16 (io), AB7 IO184NB5F17 (io), AB9 IO170NB5F15 (io), AB10 IO170PB5F15 (io), AB13 IO155PB4F14 (io), AB14 IO154NB4F14 (io), AB15 IO154PB4F14 (io), AB17 IO129PB4F12 (io), AB18 IO147NB4F13 (io), AB19 IO147PB4F13 (io), D1 IO254NB7F23 (io), E1 IO254PB7F23 (io), E4 IO257PB7F23 (io), F1 IO234NB7F21 (io), F2 IO235NB7F21 (io), F3 IO246NB7F22 (io), F4 IO250NB7F23 (io), F5 IO257NB7F23 (io), G1 IO234PB7F21 (io), G2 IO235PB7F21 (io), G3 IO246PB7F22 (io), G4 IO250PB7F23 (io), G5 IO253NB7F23 (io), G6 IO253PB7F23 (io), H1 IO230NB7F21 (io), H2 IO231NB7F21 (io), H3 IO236NB7F22 (io), H4 IO242NB7F22 (io), H5 IO243NB7F22 (io), H6 IO241NB7F22 (io), J1 IO230PB7F21 (io), J2 IO231PB7F21 (io), J3 IO236PB7F22 (io), J4 IO242PB7F22 (io), J5 IO243PB7F22 (io), J6 IO241PB7F22 (io), K1 IO226PB7F21 (io), K2 IO226NB7F21 (io), K3 IO232PB7F21 (io), K4 IO232NB7F21 (io), K5 IO229NB7F21 (io), K6 IO233NB7F21 (io), K7 IO237NB7F22 (io), L2 IO228PB7F21 (io), L3 IO228NB7F21 (io), L5 IO229PB7F21 (io), L6 IO233PB7F21 (io), L7 IO237PB7F22 (io), M2 IO225NB7F21 (io), M3 IO222NB6F20 (io), M4 IO224NB6F20 (io), M5 IO219NB6F20 (io), M6 IO215NB6F20 (io), M7 IO223NB6F20 (io), N1 IO225PB7F21 (io), N2 IO221NB6F20 (io), N3 IO222PB6F20 (io), N4 IO224PB6F20 (io), N5 IO219PB6F20 (io), N6 IO215PB6F20 (io), N7 IO223PB6F20 (io), P1 IO220NB6F20 (io), P2 IO221PB6F20 (io), P3 IO214NB6F20 (io), P4 IO212NB6F19 (io), P5 IO205NB6F19 (io), P6 IO201NB6F18 (io), P7 IO209NB6F19 (io), R1 IO220PB6F20 (io), R2 IO216NB6F20 (io), R3 IO214PB6F20 (io), R4 IO212PB6F19 (io), R5 IO205PB6F19 (io), R6 IO201PB6F18 (io), R7 IO209PB6F19 (io), T1 IO217NB6F20 (io), T2 IO216PB6F20 (io), T3 IO204NB6F19 (io), T4 IO200NB6F18 (io), T5 IO195PB6F18 (io), T7 IO179NB5F16 (io), T8 IO179PB5F16 (io), T15 IO135NB4F12 (io), T16 IO135PB4F12 (io), U1 IO217PB6F20 (io), U2 IO203NB6F19 (io), U3 IO204PB6F19 (io), U4 IO200PB6F18 (io), U5 IO195NB6F18 (io), U8 IO173NB5F16 (io), U9 IO173PB5F16 (io), U10 IO161NB5F15/CLKGN (io), U11 IO161PB5F15/CLKGP (io), U14 IO145NB4F13 (io), U15 IO145PB4F13 (io), U18 IO140NB4F13 (io), V1 IO208NB6F19 (io), V2 IO194NB6F18 (io), V3 IO187NB5F17 (io), V4 IO188NB5F17 (io), V6 IO192NB5F17 (io), V7 IO192PB5F17 (io), V9 IO162NB5F15/CLKHN (io), V10 IO162PB5F15/CLKHP (io), V12 IO159NB4F14/CLKEN (io), V13 IO159PB4F14/CLKEP (io), V15 IO139NB4F13 (io), V16 IO139PB4F13 (io), V17 IO133PB4F12 (io), V19 IO140PB4F13 (io), V20 IO142PB4F13 (io), W1 IO208PB6F19 (io), W2 IO194PB6F18 (io), W3 IO187PB5F17 (io), W5 IO188PB5F17 (io), W6 IO180NB5F16 (io), W7 IO180PB5F16 (io), W8 IO171NB5F16 (io), W9 IO171PB5F16 (io), W11 IO160NB4F14/CLKFN (io), W12 IO160PB4F14/CLKFP (io), W14 IO149PB4F13 (io), W15 IO143NB4F13 (io), W16 IO143PB4F13 (io), W17 IO133NB4F12 (io), W18 IO132PB4F12 (io), W20 IO142NB4F13 (io), Y4 IO181NB5F17 (io), Y5 IO181PB5F17 (io), Y6 IO178NB5F16 (io), Y7 IO178PB5F16 (io), Y8 IO172NB5F16 (io), Y9 IO172PB5F16 (io), Y10 IO163NB5F15 (io), Y11 IO163PB5F15 (io), Y12 IO158NB4F14 (io), Y13 IO158PB4F14 (io), Y14 IO149NB4F13 (io), Y15 IO146NB4F13 (io), Y16 IO146PB4F13 (io), Y17 IO138NB4F12 (io), Y18 IO138PB4F12 (io), Y19 IO132NB4F12 (io)
part C pins: A3 VCCIB0 (power), A20 VCCIB1 (power), AA3 VCCIB5 (power), AA20 VCCIB4 (power), AB3 VCCIB5 (power), AB8 VCCDA (power), AB16 VCCDA (power), AB20 VCCIB4 (power), B3 VCCIB0 (power), B20 VCCIB1 (power), C1 VCCIB7 (power), C2 VCCIB7 (power), C10 VCCDA (power), C11 VCCDA (power), C14 VCCDA (power), C21 VCCIB2 (power), C22 VCCIB2 (power), D5 VCCDA (power), D10 VCOMPLA (power), D13 VCCPLC (power), D14 VCCDA (power), D17 VPUMP (power), E12 VCOMPLC (power), F6 TMS (in), F7 TDO (hiz), F8 ~{TRST} (in), F9 TDI (in), F10 VCCPLA (power), F11 PRB (out), F16 VCCDA (power), G8 TCK (in), G9 VCCPLB (power), G10 VCOMPLB (power), G11 PRA (out), G12 VCCDA (power), G13 VCCPLD (power), G14 VCOMPLD (power), G17 VCCA (power), H7 VCCDA (power), H9 VCCIB0 (power), H10 VCCIB0 (power), H11 VCCIB0 (power), H12 VCCIB1 (power), H13 VCCIB1 (power), H14 VCCIB1 (power), J7 VCCA (power), J8 VCCIB7 (power), J10 VCCA (power), J11 VCCA (power), J12 VCCA (power), J13 VCCA (power), J15 VCCIB2 (power), K8 VCCIB7 (power), K9 VCCA (power), K14 VCCA (power), K15 VCCIB2 (power), L4 VCCDA (power), L8 VCCIB7 (power), L9 VCCA (power), L14 VCCA (power), L15 VCCIB2 (power), M8 VCCIB6 (power), M9 VCCA (power), M14 VCCA (power), M15 VCCIB3 (power), M18 VCCDA (power), N8 VCCIB6 (power), N9 VCCA (power), N14 VCCA (power), N15 VCCIB3 (power), P8 VCCIB6 (power), P10 VCCA (power), P11 VCCA (power), P12 VCCA (power), P13 VCCA (power), P15 VCCIB3 (power), R9 VCCIB5 (power), R10 VCCIB5 (power), R11 VCCIB5 (power), R12 VCCIB4 (power), R13 VCCIB4 (power), R14 VCCIB4 (power), T6 VCCA (power), T9 VCOMPLH (power), T10 VCCPLH (power), T11 VCCDA (power), T12 PRC (out), T13 VCOMPLF (power), T14 VCCPLF (power), T17 VCCDA (power), U7 VCCDA (power), U12 PRD (out), U13 VCCPLE (power), U17 VCCA (power), V8 VCCDA (power), V11 VCOMPLG (power), V14 VCCDA (power), W10 VCCPLG (power), W13 VCOMPLE (power), Y1 VCCIB6 (power), Y2 VCCIB6 (power), Y21 VCCIB3 (power), Y22 VCCIB3 (power)
part D pins: A1 GND (power), A2 GND (power), A11 GND (power), A12 GND (power), A21 GND (power), A22 GND (power), AA1 GND (power), AA2 GND (power), AA21 GND (power), AA22 GND (power), AB1 GND (power), AB2 GND (power), AB11 GND (power), AB12 GND (power), AB21 GND (power), AB22 GND (power), B1 GND (power), B2 GND (power), B21 GND (power), B22 GND (power), C3 GND (power), C20 GND (power), D4 GND (power), D19 GND (power), E5 GND (power), E18 GND (power), G7 GND/LP (power), G18 GND (power), H8 GND (power), H15 GND (power), J9 GND (power), J14 GND (power), K10 GND (power), K11 GND (power), K12 GND (power), K13 GND (power), L1 GND (power), L10 GND (power), L11 GND (power), L12 GND (power), L13 GND (power), L22 GND (power), M1 GND (power), M10 GND (power), M11 GND (power), M12 GND (power), M13 GND (power), M22 GND (power), N10 GND (power), N11 GND (power), N12 GND (power), N13 GND (power), P9 GND (power), P14 GND (power), R8 GND (power), R15 GND (power), U6 GND (power), U16 GND (power), V5 GND (power), V18 GND (power), W4 GND (power), W19 GND (power), Y3 GND (power), Y20 GND (power)
part A text: Bank 0; Bank 3; Bank 1; Bank 2
part B text: Bank 4; Bank 7; Bank 5; Bank 6

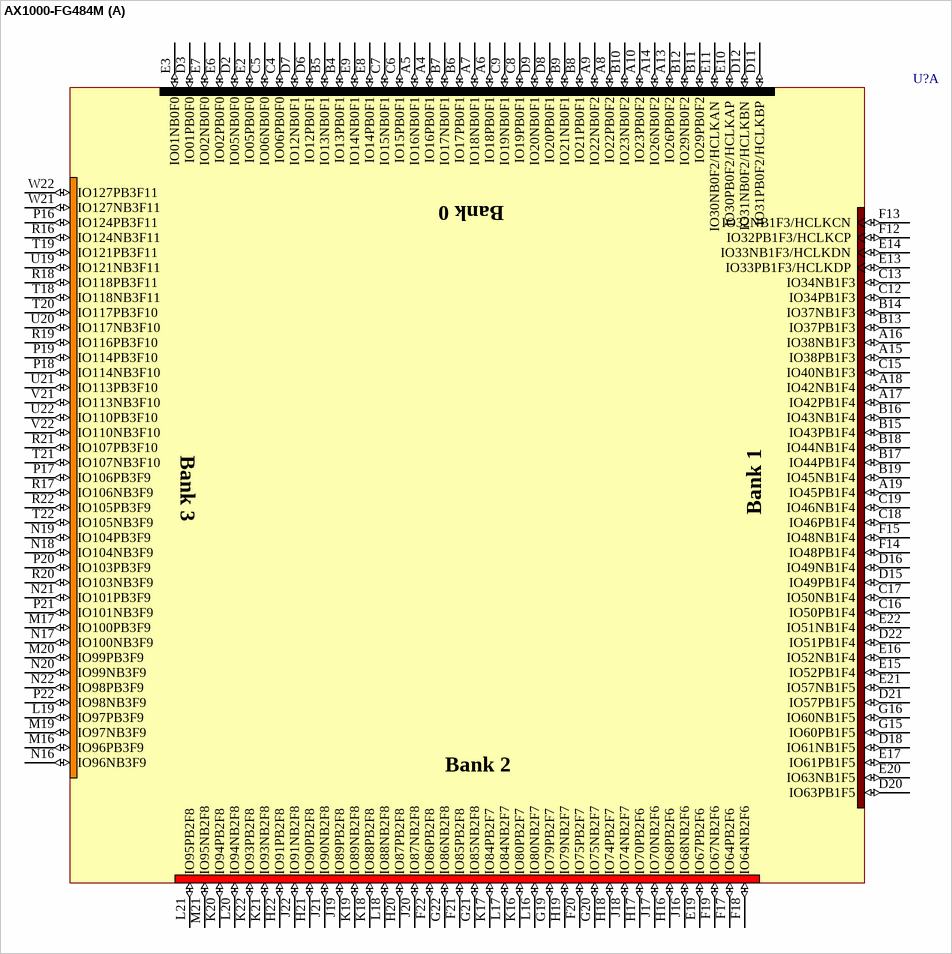
[diagram p334: symbol AX1000-FG484M]

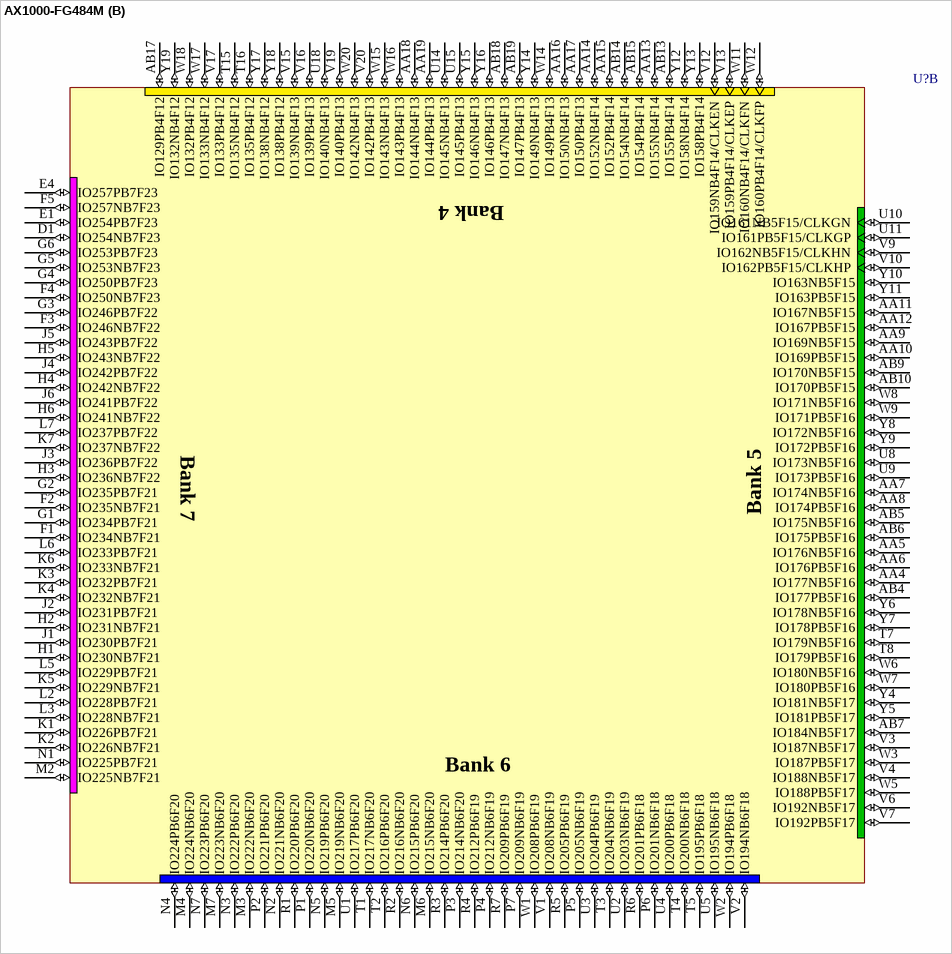
[diagram p335: symbol AX1000-FG484M]

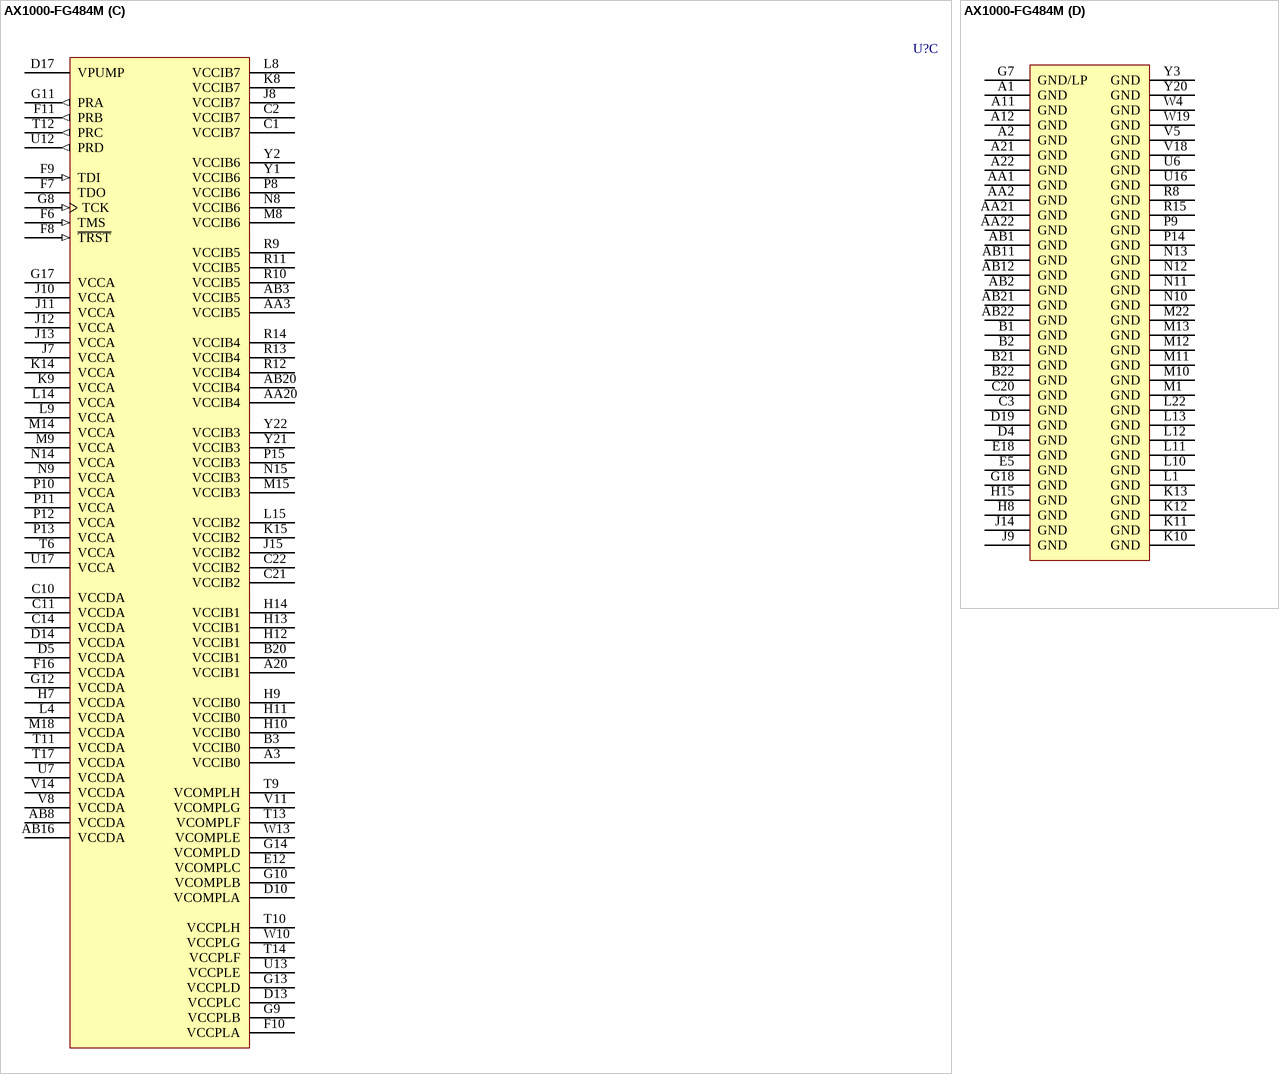
[diagram p336: symbol AX1000-FG484M]

## AX1000-FG484M
designator U?
Axcelerator AX1000 FPGA, 317 User I/Os, 484-Pin FBGA, Standard Speed Grade, Military Grade; Published: 11-Dec-2009; DatasheetVersion: v2.8, Oct-2009; PackageVersion: ver11.2, Nov-2009; PackageReference: FG484; Publisher: Altium Limited; PackageDescription: 484-Ball Fine Pitch Plastic Ball Grid Array (FG484) - Fully Populated; Code_JEDEC: MS-034-AAJ-1; Code_IPC: BGA100P22X22-484; ComponentLink1Description: Axcelerator Datasheet; ComponentLink1URL: http://www.actel.com/documents/AX_DS.pdf; ComponentLink2Description: Package Mechanical Drawings; ComponentLink2URL: http://www.actel.com/documents/PckgMechDrwngs.pdf; ComponentLink3Description: Axcelerator Documents; ComponentLink3URL: http://www.actel.com/products/axcelerator/docs.aspx; ComponentLink4Description: Actel.com Home; ComponentLink4URL: http://www.actel.com/
footprint FG484 (BGA, 484-Leads, Body 23x23mm, Pitch 1mm)
part A pins: A4 IO16PB0F1 (io), A5 IO16NB0F1 (io), A6 IO18PB0F1 (io), A7 IO18NB0F1 (io), A8 IO22PB0F2 (io), A9 IO22NB0F2 (io), A10 IO23PB0F2 (io), A13 IO26PB0F2 (io), A14 IO26NB0F2 (io), A15 IO38PB1F3 (io), A16 IO38NB1F3 (io), A17 IO42PB1F4 (io), A18 IO42NB1F4 (io), A19 IO45PB1F4 (io), B4 IO13PB0F1 (io), B5 IO13NB0F1 (io), B6 IO17PB0F1 (io), B7 IO17NB0F1 (io), B8 IO21PB0F1 (io), B9 IO21NB0F1 (io), B10 IO23NB0F2 (io), B11 IO29PB0F2 (io), B12 IO29NB0F2 (io), B13 IO37PB1F3 (io), B14 IO37NB1F3 (io), B15 IO43PB1F4 (io), B16 IO43NB1F4 (io), B17 IO44PB1F4 (io), B18 IO44NB1F4 (io), B19 IO45NB1F4 (io), C4 IO06PB0F0 (io), C5 IO06NB0F0 (io), C6 IO15PB0F1 (io), C7 IO15NB0F1 (io), C8 IO19PB0F1 (io), C9 IO19NB0F1 (io), C12 IO34PB1F3 (io), C13 IO34NB1F3 (io), C15 IO40NB1F3 (io), C16 IO50PB1F4 (io), C17 IO50NB1F4 (io), C18 IO46PB1F4 (io), C19 IO46NB1F4 (io), D2 IO05NB0F0 (io), D3 IO01PB0F0 (io), D6 IO12PB0F1 (io), D7 IO12NB0F1 (io), D8 IO20PB0F1 (io), D9 IO20NB0F1 (io), D11 IO31PB0F2/HCLKBP (io), D12 IO31NB0F2/HCLKBN (io), D15 IO49PB1F4 (io), D16 IO49NB1F4 (io), D18 IO61NB1F5 (io), D20 IO63PB1F5 (io), D21 IO57PB1F5 (io), D22 IO51PB1F4 (io), E2 IO05PB0F0 (io), E3 IO01NB0F0 (io), E6 IO02PB0F0 (io), E7 IO02NB0F0 (io), E8 IO14PB0F1 (io), E9 IO14NB0F1 (io), E10 IO30PB0F2/HCLKAP (io), E11 IO30NB0F2/HCLKAN (io), E13 IO33PB1F3/HCLKDP (io), E14 IO33NB1F3/HCLKDN (io), E15 IO52PB1F4 (io), E16 IO52NB1F4 (io), E17 IO61PB1F5 (io), E19 IO67PB2F6 (io), E20 IO63NB1F5 (io), E21 IO57NB1F5 (io), E22 IO51NB1F4 (io), F12 IO32PB1F3/HCLKCP (io), F13 IO32NB1F3/HCLKCN (io), F14 IO48PB1F4 (io), F15 IO48NB1F4 (io), F17 IO64PB2F6 (io), F18 IO64NB2F6 (io), F19 IO67NB2F6 (io), F20 IO75PB2F7 (io), F21 IO85PB2F8 (io), F22 IO86PB2F8 (io), G15 IO60PB1F5 (io), G16 IO60NB1F5 (io), G19 IO79PB2F7 (io), G20 IO75NB2F7 (io), G21 IO85NB2F8 (io), G22 IO86NB2F8 (io), H16 IO68PB2F6 (io), H17 IO70PB2F6 (io), H18 IO74PB2F7 (io), H19 IO79NB2F7 (io), H20 IO87PB2F8 (io), H21 IO90PB2F8 (io), H22 IO91PB2F8 (io), J16 IO68NB2F6 (io), J17 IO70NB2F6 (io), J18 IO74NB2F7 (io), J19 IO89PB2F8 (io), J20 IO87NB2F8 (io), J21 IO90NB2F8 (io), J22 IO91NB2F8 (io), K16 IO80PB2F7 (io), K17 IO84PB2F7 (io), K18 IO88PB2F8 (io), K19 IO89NB2F8 (io), K20 IO94PB2F8 (io), K21 IO93NB2F8 (io), K22 IO93PB2F8 (io), L16 IO80NB2F7 (io), L17 IO84NB2F7 (io), L18 IO88NB2F8 (io), L19 IO97PB3F9 (io), L20 IO94NB2F8 (io), L21 IO95PB2F8 (io), M16 IO96PB3F9 (io), M17 IO100PB3F9 (io), M19 IO97NB3F9 (io), M20 IO99PB3F9 (io), M21 IO95NB2F8 (io), N16 IO96NB3F9 (io), N17 IO100NB3F9 (io), N18 IO104NB3F9 (io), N19 IO104PB3F9 (io), N20 IO99NB3F9 (io), N21 IO101PB3F9 (io), N22 IO98PB3F9 (io), P16 IO124PB3F11 (io), P17 IO106PB3F9 (io), P18 IO114NB3F10 (io), P19 IO114PB3F10 (io), P20 IO103PB3F9 (io), P21 IO101NB3F9 (io), P22 IO98NB3F9 (io), R16 IO124NB3F11 (io), R17 IO106NB3F9 (io), R18 IO118PB3F11 (io), R19 IO116PB3F10 (io), R20 IO103NB3F9 (io), R21 IO107PB3F10 (io), R22 IO105PB3F9 (io), T18 IO118NB3F11 (io), T19 IO121PB3F11 (io), T20 IO117PB3F10 (io), T21 IO107NB3F10 (io), T22 IO105NB3F9 (io), U19 IO121NB3F11 (io), U20 IO117NB3F10 (io), U21 IO113PB3F10 (io), U22 IO110PB3F10 (io), V21 IO113NB3F10 (io), V22 IO110NB3F10 (io), W21 IO127NB3F11 (io), W22 IO127PB3F11 (io)
part B pins: AA4 IO177NB5F16 (io), AA5 IO176NB5F16 (io), AA6 IO176PB5F16 (io), AA7 IO174NB5F16 (io), AA8 IO174PB5F16 (io), AA9 IO169NB5F15 (io), AA10 IO169PB5F15 (io), AA11 IO167NB5F15 (io), AA12 IO167PB5F15 (io), AA13 IO155NB4F14 (io), AA14 IO152NB4F14 (io), AA15 IO152PB4F14 (io), AA16 IO150NB4F13 (io), AA17 IO150PB4F13 (io), AA18 IO144NB4F13 (io), AA19 IO144PB4F13 (io), AB4 IO177PB5F16 (io), AB5 IO175NB5F16 (io), AB6 IO175PB5F16 (io), AB7 IO184NB5F17 (io), AB9 IO170NB5F15 (io), AB10 IO170PB5F15 (io), AB13 IO155PB4F14 (io), AB14 IO154NB4F14 (io), AB15 IO154PB4F14 (io), AB17 IO129PB4F12 (io), AB18 IO147NB4F13 (io), AB19 IO147PB4F13 (io), D1 IO254NB7F23 (io), E1 IO254PB7F23 (io), E4 IO257PB7F23 (io), F1 IO234NB7F21 (io), F2 IO235NB7F21 (io), F3 IO246NB7F22 (io), F4 IO250NB7F23 (io), F5 IO257NB7F23 (io), G1 IO234PB7F21 (io), G2 IO235PB7F21 (io), G3 IO246PB7F22 (io), G4 IO250PB7F23 (io), G5 IO253NB7F23 (io), G6 IO253PB7F23 (io), H1 IO230NB7F21 (io), H2 IO231NB7F21 (io), H3 IO236NB7F22 (io), H4 IO242NB7F22 (io), H5 IO243NB7F22 (io), H6 IO241NB7F22 (io), J1 IO230PB7F21 (io), J2 IO231PB7F21 (io), J3 IO236PB7F22 (io), J4 IO242PB7F22 (io), J5 IO243PB7F22 (io), J6 IO241PB7F22 (io), K1 IO226PB7F21 (io), K2 IO226NB7F21 (io), K3 IO232PB7F21 (io), K4 IO232NB7F21 (io), K5 IO229NB7F21 (io), K6 IO233NB7F21 (io), K7 IO237NB7F22 (io), L2 IO228PB7F21 (io), L3 IO228NB7F21 (io), L5 IO229PB7F21 (io), L6 IO233PB7F21 (io), L7 IO237PB7F22 (io), M2 IO225NB7F21 (io), M3 IO222NB6F20 (io), M4 IO224NB6F20 (io), M5 IO219NB6F20 (io), M6 IO215NB6F20 (io), M7 IO223NB6F20 (io), N1 IO225PB7F21 (io), N2 IO221NB6F20 (io), N3 IO222PB6F20 (io), N4 IO224PB6F20 (io), N5 IO219PB6F20 (io), N6 IO215PB6F20 (io), N7 IO223PB6F20 (io), P1 IO220NB6F20 (io), P2 IO221PB6F20 (io), P3 IO214NB6F20 (io), P4 IO212NB6F19 (io), P5 IO205NB6F19 (io), P6 IO201NB6F18 (io), P7 IO209NB6F19 (io), R1 IO220PB6F20 (io), R2 IO216NB6F20 (io), R3 IO214PB6F20 (io), R4 IO212PB6F19 (io), R5 IO205PB6F19 (io), R6 IO201PB6F18 (io), R7 IO209PB6F19 (io), T1 IO217NB6F20 (io), T2 IO216PB6F20 (io), T3 IO204NB6F19 (io), T4 IO200NB6F18 (io), T5 IO195PB6F18 (io), T7 IO179NB5F16 (io), T8 IO179PB5F16 (io), T15 IO135NB4F12 (io), T16 IO135PB4F12 (io), U1 IO217PB6F20 (io), U2 IO203NB6F19 (io), U3 IO204PB6F19 (io), U4 IO200PB6F18 (io), U5 IO195NB6F18 (io), U8 IO173NB5F16 (io), U9 IO173PB5F16 (io), U10 IO161NB5F15/CLKGN (io), U11 IO161PB5F15/CLKGP (io), U14 IO145NB4F13 (io), U15 IO145PB4F13 (io), U18 IO140NB4F13 (io), V1 IO208NB6F19 (io), V2 IO194NB6F18 (io), V3 IO187NB5F17 (io), V4 IO188NB5F17 (io), V6 IO192NB5F17 (io), V7 IO192PB5F17 (io), V9 IO162NB5F15/CLKHN (io), V10 IO162PB5F15/CLKHP (io), V12 IO159NB4F14/CLKEN (io), V13 IO159PB4F14/CLKEP (io), V15 IO139NB4F13 (io), V16 IO139PB4F13 (io), V17 IO133PB4F12 (io), V19 IO140PB4F13 (io), V20 IO142PB4F13 (io), W1 IO208PB6F19 (io), W2 IO194PB6F18 (io), W3 IO187PB5F17 (io), W5 IO188PB5F17 (io), W6 IO180NB5F16 (io), W7 IO180PB5F16 (io), W8 IO171NB5F16 (io), W9 IO171PB5F16 (io), W11 IO160NB4F14/CLKFN (io), W12 IO160PB4F14/CLKFP (io), W14 IO149PB4F13 (io), W15 IO143NB4F13 (io), W16 IO143PB4F13 (io), W17 IO133NB4F12 (io), W18 IO132PB4F12 (io), W20 IO142NB4F13 (io), Y4 IO181NB5F17 (io), Y5 IO181PB5F17 (io), Y6 IO178NB5F16 (io), Y7 IO178PB5F16 (io), Y8 IO172NB5F16 (io), Y9 IO172PB5F16 (io), Y10 IO163NB5F15 (io), Y11 IO163PB5F15 (io), Y12 IO158NB4F14 (io), Y13 IO158PB4F14 (io), Y14 IO149NB4F13 (io), Y15 IO146NB4F13 (io), Y16 IO146PB4F13 (io), Y17 IO138NB4F12 (io), Y18 IO138PB4F12 (io), Y19 IO132NB4F12 (io)
part C pins: A3 VCCIB0 (power), A20 VCCIB1 (power), AA3 VCCIB5 (power), AA20 VCCIB4 (power), AB3 VCCIB5 (power), AB8 VCCDA (power), AB16 VCCDA (power), AB20 VCCIB4 (power), B3 VCCIB0 (power), B20 VCCIB1 (power), C1 VCCIB7 (power), C2 VCCIB7 (power), C10 VCCDA (power), C11 VCCDA (power), C14 VCCDA (power), C21 VCCIB2 (power), C22 VCCIB2 (power), D5 VCCDA (power), D10 VCOMPLA (power), D13 VCCPLC (power), D14 VCCDA (power), D17 VPUMP (power), E12 VCOMPLC (power), F6 TMS (in), F7 TDO (hiz), F8 ~{TRST} (in), F9 TDI (in), F10 VCCPLA (power), F11 PRB (out), F16 VCCDA (power), G8 TCK (in), G9 VCCPLB (power), G10 VCOMPLB (power), G11 PRA (out), G12 VCCDA (power), G13 VCCPLD (power), G14 VCOMPLD (power), G17 VCCA (power), H7 VCCDA (power), H9 VCCIB0 (power), H10 VCCIB0 (power), H11 VCCIB0 (power), H12 VCCIB1 (power), H13 VCCIB1 (power), H14 VCCIB1 (power), J7 VCCA (power), J8 VCCIB7 (power), J10 VCCA (power), J11 VCCA (power), J12 VCCA (power), J13 VCCA (power), J15 VCCIB2 (power), K8 VCCIB7 (power), K9 VCCA (power), K14 VCCA (power), K15 VCCIB2 (power), L4 VCCDA (power), L8 VCCIB7 (power), L9 VCCA (power), L14 VCCA (power), L15 VCCIB2 (power), M8 VCCIB6 (power), M9 VCCA (power), M14 VCCA (power), M15 VCCIB3 (power), M18 VCCDA (power), N8 VCCIB6 (power), N9 VCCA (power), N14 VCCA (power), N15 VCCIB3 (power), P8 VCCIB6 (power), P10 VCCA (power), P11 VCCA (power), P12 VCCA (power), P13 VCCA (power), P15 VCCIB3 (power), R9 VCCIB5 (power), R10 VCCIB5 (power), R11 VCCIB5 (power), R12 VCCIB4 (power), R13 VCCIB4 (power), R14 VCCIB4 (power), T6 VCCA (power), T9 VCOMPLH (power), T10 VCCPLH (power), T11 VCCDA (power), T12 PRC (out), T13 VCOMPLF (power), T14 VCCPLF (power), T17 VCCDA (power), U7 VCCDA (power), U12 PRD (out), U13 VCCPLE (power), U17 VCCA (power), V8 VCCDA (power), V11 VCOMPLG (power), V14 VCCDA (power), W10 VCCPLG (power), W13 VCOMPLE (power), Y1 VCCIB6 (power), Y2 VCCIB6 (power), Y21 VCCIB3 (power), Y22 VCCIB3 (power)
part D pins: A1 GND (power), A2 GND (power), A11 GND (power), A12 GND (power), A21 GND (power), A22 GND (power), AA1 GND (power), AA2 GND (power), AA21 GND (power), AA22 GND (power), AB1 GND (power), AB2 GND (power), AB11 GND (power), AB12 GND (power), AB21 GND (power), AB22 GND (power), B1 GND (power), B2 GND (power), B21 GND (power), B22 GND (power), C3 GND (power), C20 GND (power), D4 GND (power), D19 GND (power), E5 GND (power), E18 GND (power), G7 GND/LP (power), G18 GND (power), H8 GND (power), H15 GND (power), J9 GND (power), J14 GND (power), K10 GND (power), K11 GND (power), K12 GND (power), K13 GND (power), L1 GND (power), L10 GND (power), L11 GND (power), L12 GND (power), L13 GND (power), L22 GND (power), M1 GND (power), M10 GND (power), M11 GND (power), M12 GND (power), M13 GND (power), M22 GND (power), N10 GND (power), N11 GND (power), N12 GND (power), N13 GND (power), P9 GND (power), P14 GND (power), R8 GND (power), R15 GND (power), U6 GND (power), U16 GND (power), V5 GND (power), V18 GND (power), W4 GND (power), W19 GND (power), Y3 GND (power), Y20 GND (power)
part A text: Bank 0; Bank 3; Bank 1; Bank 2
part B text: Bank 4; Bank 7; Bank 5; Bank 6

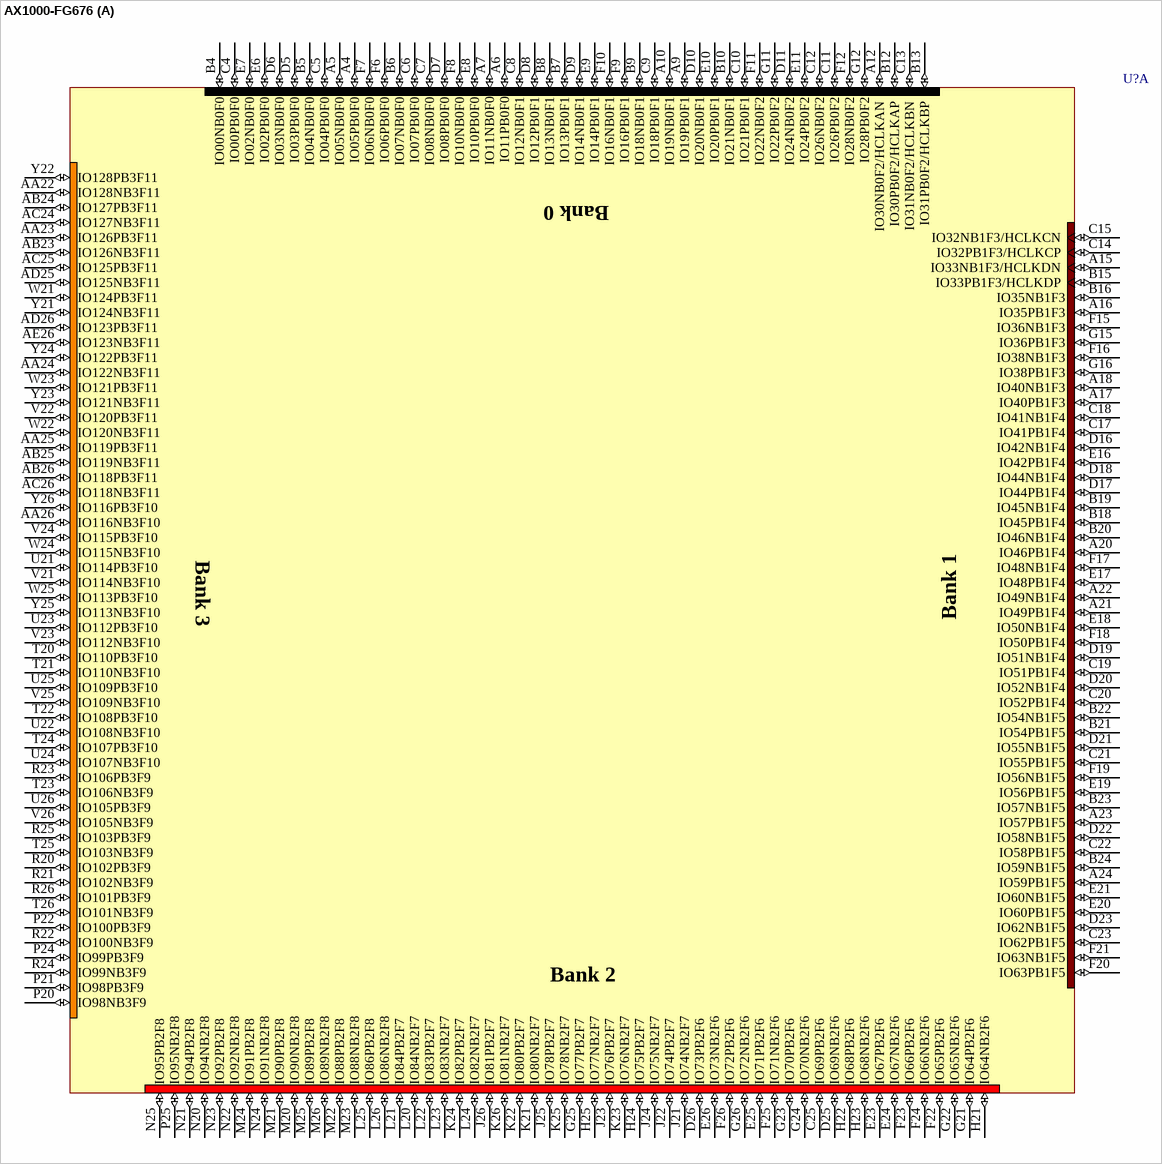
[diagram p337: symbol AX1000-FG676]

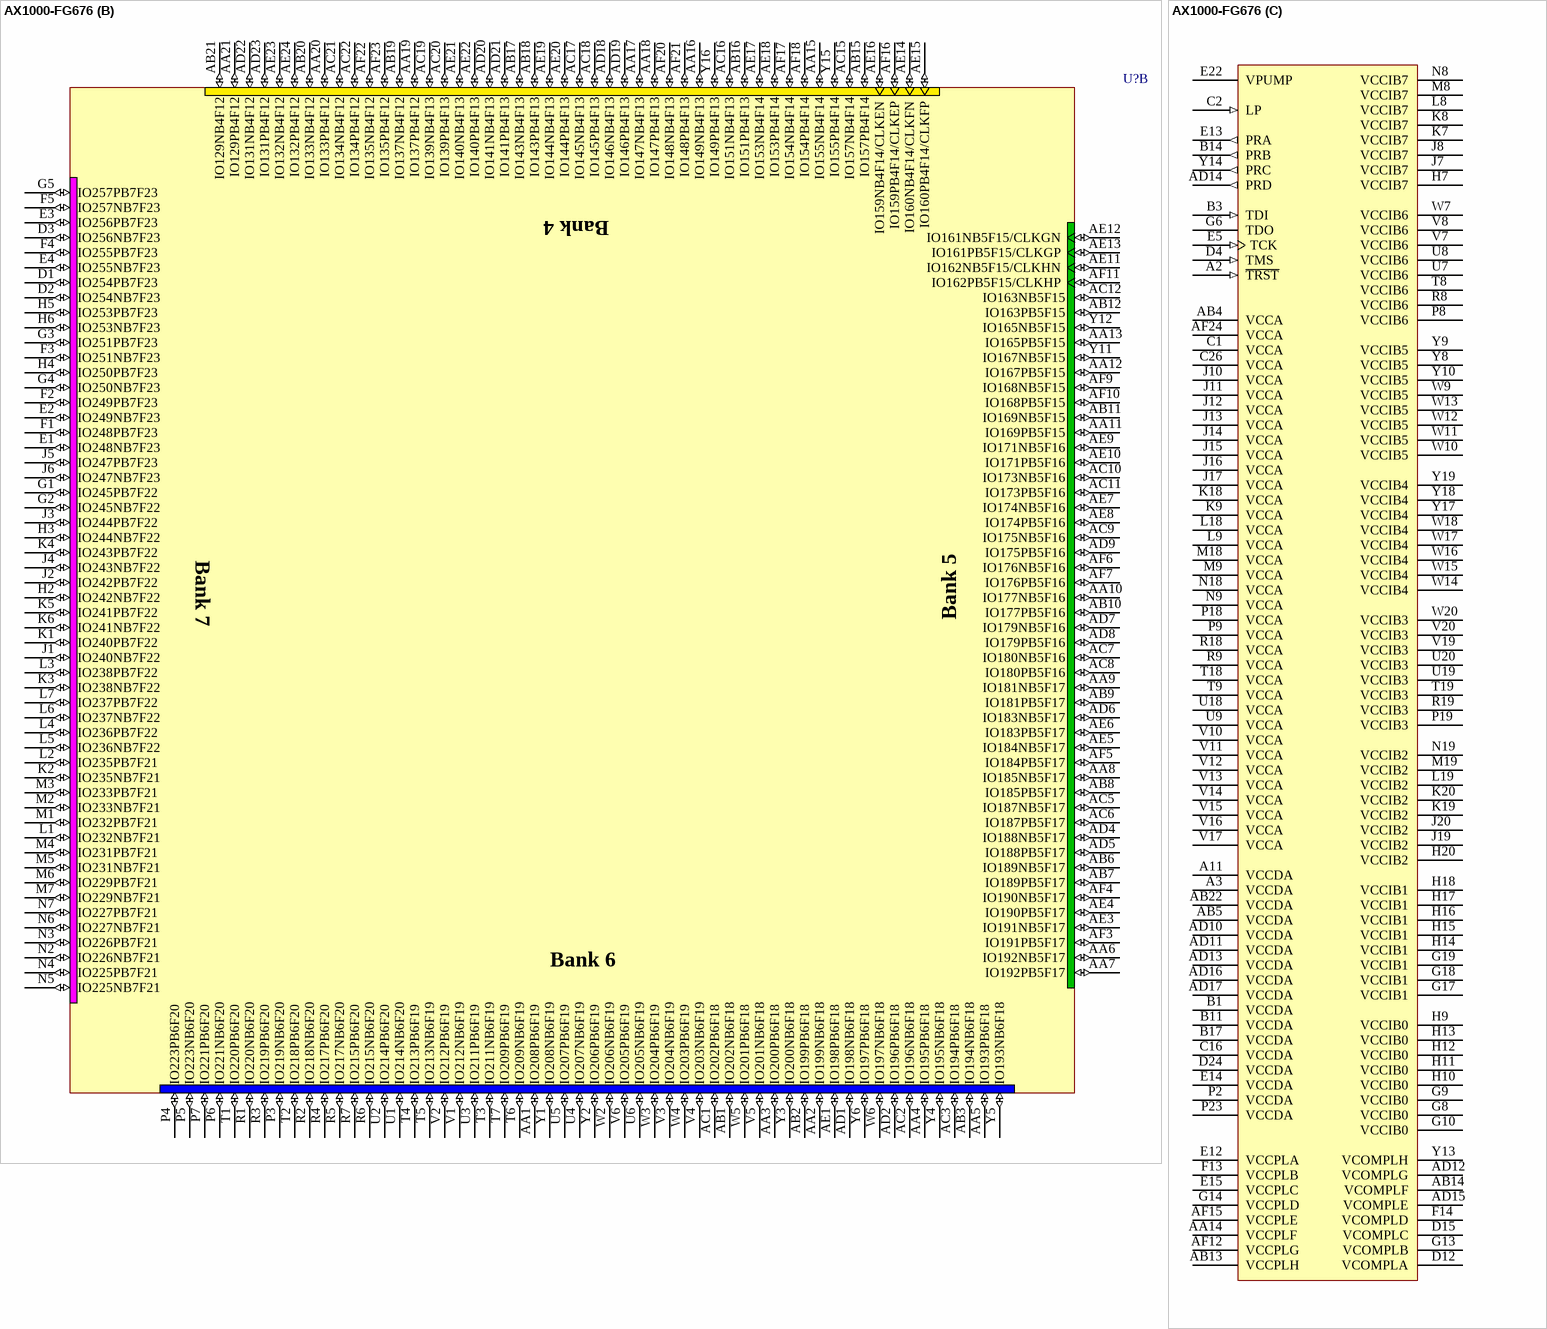
[diagram p338: symbol AX1000-FG676]

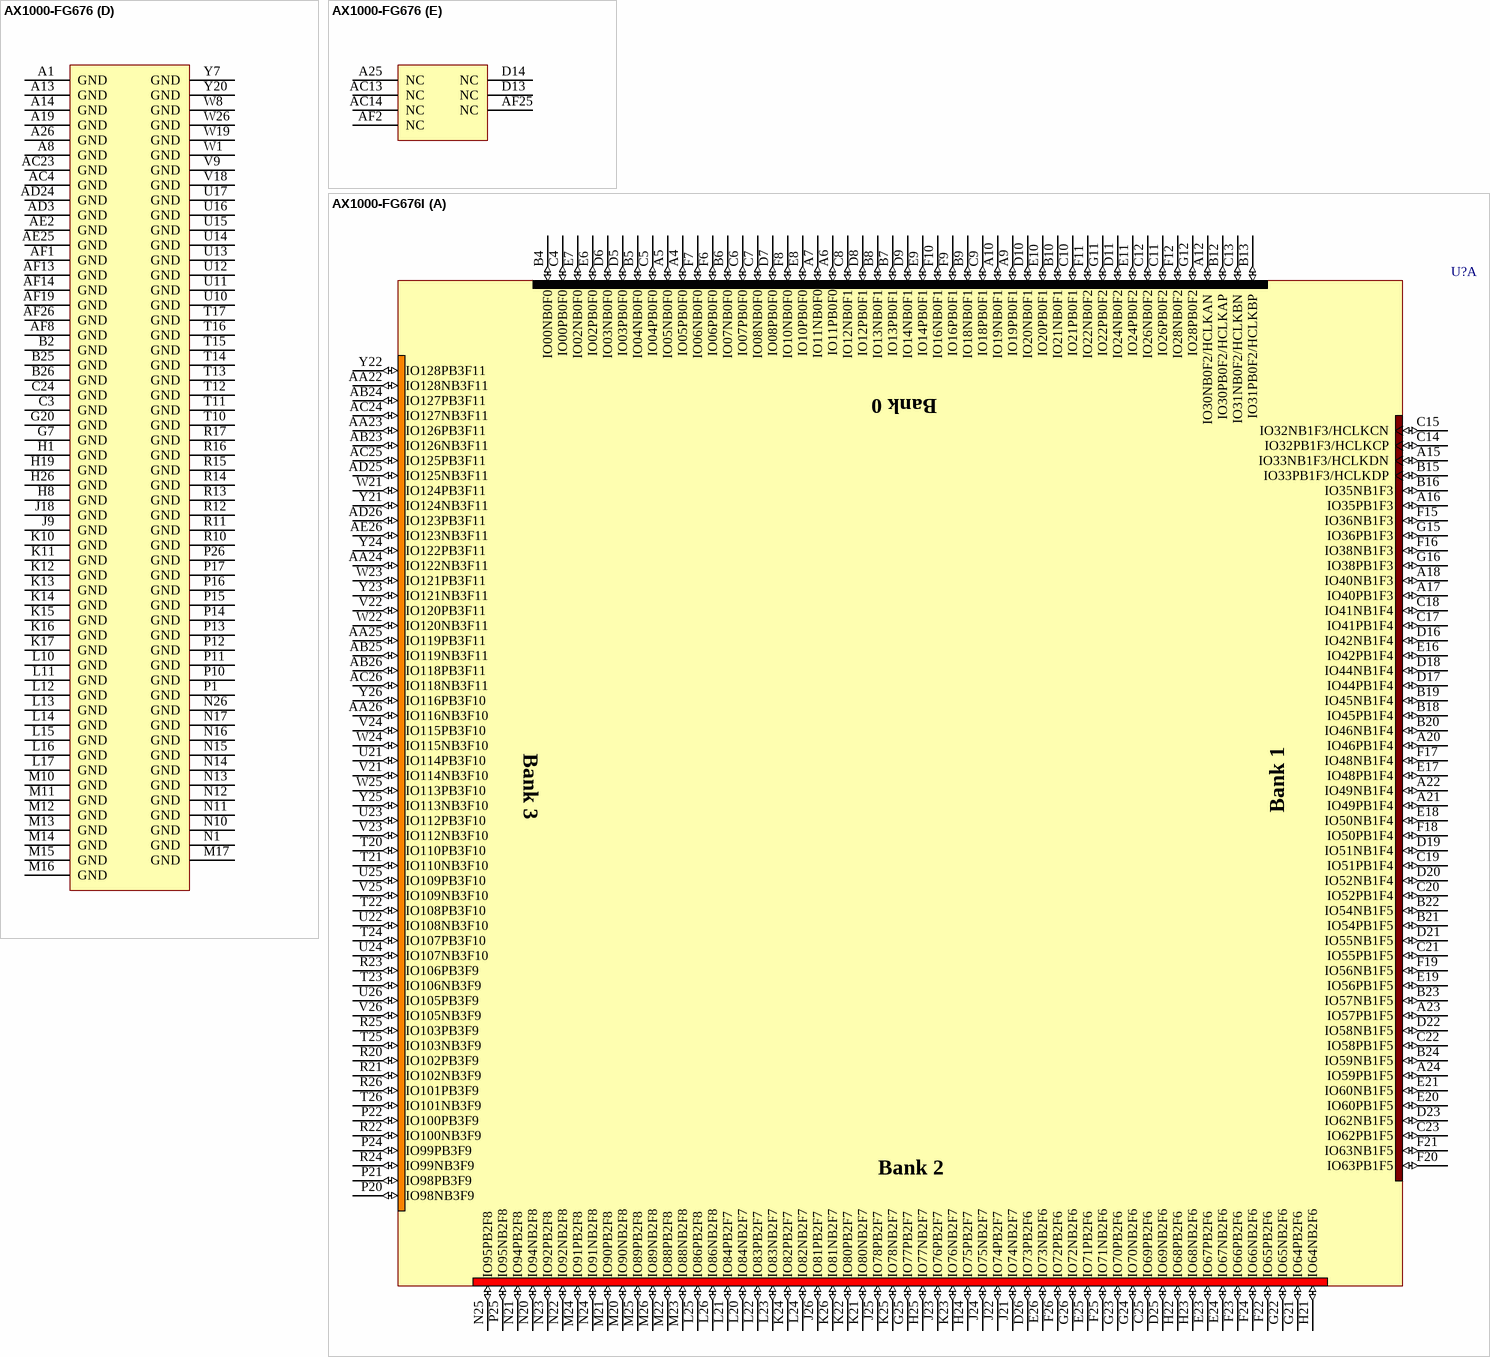
[diagram p339: symbols AX1000-FG676 to AX1000-FG676I]